# Altium schematic symbol library Microcontroller tinyAVR.SchLib: 370 symbols (part 9 of 11)
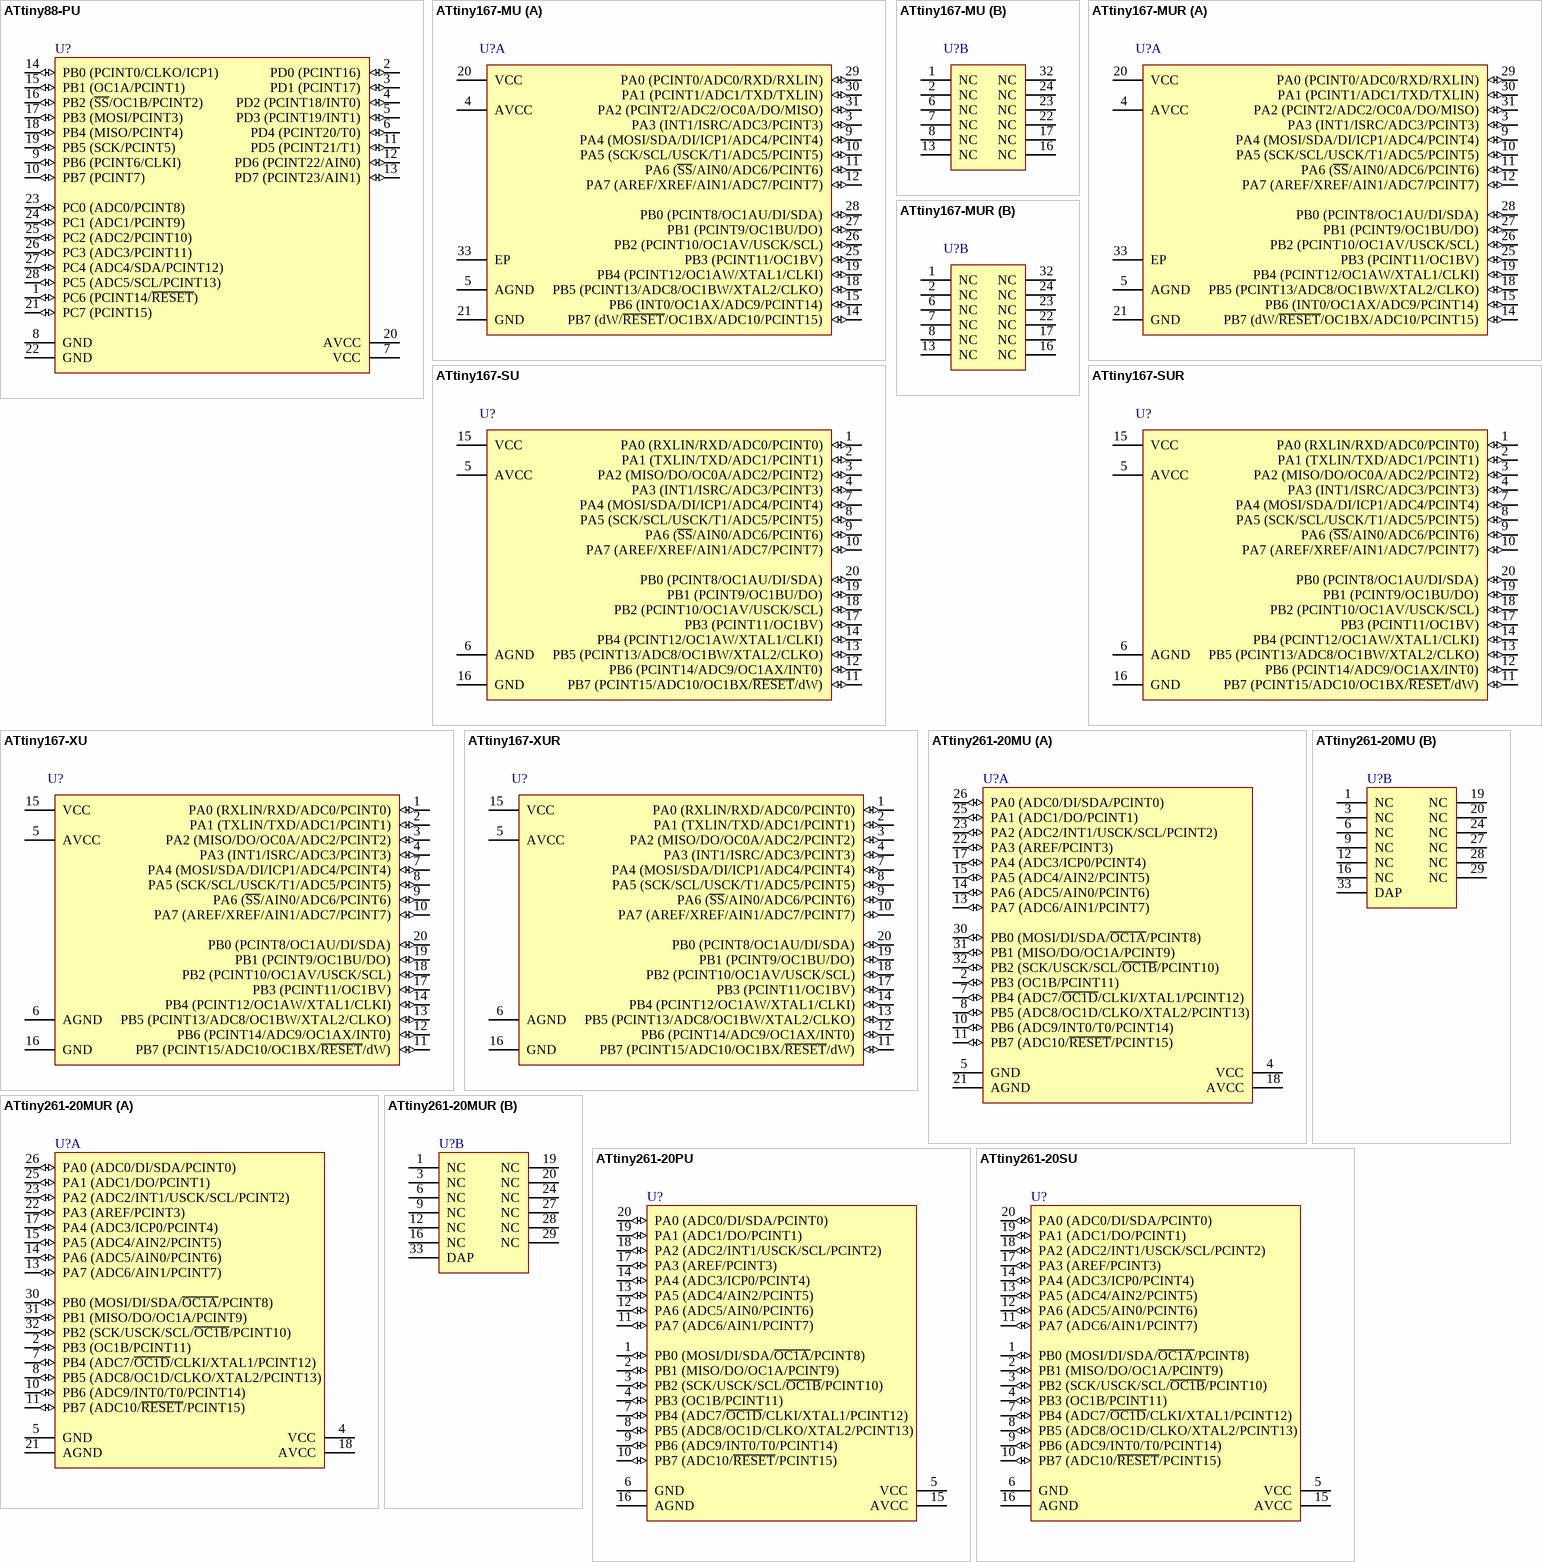
[diagram p34: symbols ATtiny88-PU to ATtiny261-20SU]

## ATtiny167-XUR
designator U?
8-bit AVR Microcontroller, LIN Controller, 1.8-5.5V, 20MHz, 16KB Flash, 512 Bytes EEPROM, 512 Bytes SRAM, 20-pin TSSOP, Industrial Grade (-40°C to 85°C), Reel; DatasheetVersion: revB, Sep-2010; PackageVersion: revC, Oct-2003; PackageReference: 20X; PackageDescription: 20-lead, 4.4 mm Body Width, Plastic Thin Shrink Small Outline Package (TSSOP); ComponentLink1Description: Manufacturer URL; ComponentLink1URL: http://www.atmel.com/; ComponentLink2Description: ATtiny87/167 Datasheet; ComponentLink2URL: http://www.atmel.com/dyn/resources/prod_documents/doc8265.pdf; ComponentLink3Description: ATtiny87/167 Summary; ComponentLink3URL: http://www.atmel.com/dyn/resources/prod_documents/8265S.pdf
footprint 20X_N (TSOP, 20-Leads, Body 6.5x4.4mm, Pitch 0.65mm, IPC Medium Density)
footprint 20X_L (TSOP, 20-Leads, Body 6.5x4.4mm, Pitch 0.65mm, IPC High Density)
footprint 20X_M (TSOP, 20-Leads, Body 6.5x4.4mm, Pitch 0.65mm, IPC Low Density)
pins: 1 PA0 (RXLIN/RXD/ADC0/PCINT0) (io), 2 PA1 (TXLIN/TXD/ADC1/PCINT1) (io), 3 PA2 (MISO/DO/OC0A/ADC2/PCINT2) (io), 4 PA3 (INT1/ISRC/ADC3/PCINT3) (io), 5 AVCC (power), 6 AGND (power), 7 PA4 (MOSI/SDA/DI/ICP1/ADC4/PCINT4) (io), 8 PA5 (SCK/SCL/USCK/T1/ADC5/PCINT5) (io), 9 PA6 (~{SS}/AIN0/ADC6/PCINT6) (io), 10 PA7 (AREF/XREF/AIN1/ADC7/PCINT7) (io), 11 PB7 (PCINT15/ADC10/OC1BX/~{RESET}/dW) (io), 12 PB6 (PCINT14/ADC9/OC1AX/INT0) (io), 13 PB5 (PCINT13/ADC8/OC1BW/XTAL2/CLKO) (io), 14 PB4 (PCINT12/OC1AW/XTAL1/CLKI) (io), 15 VCC (power), 16 GND (power), 17 PB3 (PCINT11/OC1BV) (io), 18 PB2 (PCINT10/OC1AV/USCK/SCL) (io), 19 PB1 (PCINT9/OC1BU/DO) (io), 20 PB0 (PCINT8/OC1AU/DI/SDA) (io)

## ATtiny261-20MU
designator U?
8-bit AVR Microcontroller, 2.7-5.5V, 20MHz, 2KB Flash, 128 Bytes EEPROM, 128 Bytes SRAM, 32-pin MLF, Industrial Grade (-40°C to 85°C); DatasheetVersion: revE, Aug-2010; PackageVersion: revE, May-2006; PackageReference: 32M1-A; PackageDescription: 32-Pin Micro Lead Frame Package (MLF),  5 x 5 x 1.0 mm Body, Pitch 0.50 mm, 3.10mm Exposed Pad; Code_JEDEC: MO-220-VHHD-2; ComponentLink1Description: Manufacturer URL; ComponentLink1URL: http://www.atmel.com/; ComponentLink2Description: ATtiny261/461/861 Datasheet; ComponentLink2URL: http://www.atmel.com/dyn/resources/prod_documents/doc2588.pdf; ComponentLink3Description: ATtiny261/461/861 Summary; ComponentLink3URL: http://www.atmel.com/dyn/resources/prod_documents/2588S.pdf
footprint 32M1-A_N (QFN, 32-Leads, Body 5x5mm, Pitch 0.5mm, Thermal Pad 3.3x3.3mm, IPC Medium Density)
footprint 32M1-A_L (QFN, 32-Leads, Body 5x5mm, Pitch 0.5mm, Thermal Pad 3.3x3.3mm, IPC High Density)
footprint 32M1-A_M (QFN, 32-Leads, Body 5x5mm, Pitch 0.5mm, Thermal Pad 3.3x3.3mm, IPC Low Density)
part A pins: 2 PB3 (OC1B/PCINT11) (io), 4 VCC (power), 5 GND (power), 7 PB4 (ADC7/~{OC1D}/CLKI/XTAL1/PCINT12) (io), 8 PB5 (ADC8/OC1D/CLKO/XTAL2/PCINT13) (io), 10 PB6 (ADC9/INT0/T0/PCINT14) (io), 11 PB7 (ADC10/~{RESET}/PCINT15) (io), 13 PA7 (ADC6/AIN1/PCINT7) (io), 14 PA6 (ADC5/AIN0/PCINT6) (io), 15 PA5 (ADC4/AIN2/PCINT5) (io), 17 PA4 (ADC3/ICP0/PCINT4) (io), 18 AVCC (power), 21 AGND (power), 22 PA3 (AREF/PCINT3) (io), 23 PA2 (ADC2/INT1/USCK/SCL/PCINT2) (io), 25 PA1 (ADC1/DO/PCINT1) (io), 26 PA0 (ADC0/DI/SDA/PCINT0) (io), 30 PB0 (MOSI/DI/SDA/~{OC1A}/PCINT8) (io), 31 PB1 (MISO/DO/OC1A/PCINT9) (io), 32 PB2 (SCK/USCK/SCL/~{OC1B}/PCINT10) (io)
part B pins: 1 NC, 3 NC, 6 NC, 9 NC, 12 NC, 16 NC, 19 NC, 20 NC, 24 NC, 27 NC, 28 NC, 29 NC, 33 DAP (power)

## ATtiny261-20MUR
designator U?
8-bit AVR Microcontroller, 2.7-5.5V, 20MHz, 2KB Flash, 128 Bytes EEPROM, 128 Bytes SRAM, 32-pin MLF, Industrial Grade (-40°C to 85°C), Reel; DatasheetVersion: revE, Aug-2010; PackageVersion: revE, May-2006; PackageReference: 32M1-A; PackageDescription: 32-Pin Micro Lead Frame Package (MLF),  5 x 5 x 1.0 mm Body, Pitch 0.50 mm, 3.10mm Exposed Pad; Code_JEDEC: MO-220-VHHD-2; ComponentLink1Description: Manufacturer URL; ComponentLink1URL: http://www.atmel.com/; ComponentLink2Description: ATtiny261/461/861 Datasheet; ComponentLink2URL: http://www.atmel.com/dyn/resources/prod_documents/doc2588.pdf; ComponentLink3Description: ATtiny261/461/861 Summary; ComponentLink3URL: http://www.atmel.com/dyn/resources/prod_documents/2588S.pdf
footprint 32M1-A_N (QFN, 32-Leads, Body 5x5mm, Pitch 0.5mm, Thermal Pad 3.3x3.3mm, IPC Medium Density)
footprint 32M1-A_L (QFN, 32-Leads, Body 5x5mm, Pitch 0.5mm, Thermal Pad 3.3x3.3mm, IPC High Density)
footprint 32M1-A_M (QFN, 32-Leads, Body 5x5mm, Pitch 0.5mm, Thermal Pad 3.3x3.3mm, IPC Low Density)
part A pins: 2 PB3 (OC1B/PCINT11) (io), 4 VCC (power), 5 GND (power), 7 PB4 (ADC7/~{OC1D}/CLKI/XTAL1/PCINT12) (io), 8 PB5 (ADC8/OC1D/CLKO/XTAL2/PCINT13) (io), 10 PB6 (ADC9/INT0/T0/PCINT14) (io), 11 PB7 (ADC10/~{RESET}/PCINT15) (io), 13 PA7 (ADC6/AIN1/PCINT7) (io), 14 PA6 (ADC5/AIN0/PCINT6) (io), 15 PA5 (ADC4/AIN2/PCINT5) (io), 17 PA4 (ADC3/ICP0/PCINT4) (io), 18 AVCC (power), 21 AGND (power), 22 PA3 (AREF/PCINT3) (io), 23 PA2 (ADC2/INT1/USCK/SCL/PCINT2) (io), 25 PA1 (ADC1/DO/PCINT1) (io), 26 PA0 (ADC0/DI/SDA/PCINT0) (io), 30 PB0 (MOSI/DI/SDA/~{OC1A}/PCINT8) (io), 31 PB1 (MISO/DO/OC1A/PCINT9) (io), 32 PB2 (SCK/USCK/SCL/~{OC1B}/PCINT10) (io)
part B pins: 1 NC, 3 NC, 6 NC, 9 NC, 12 NC, 16 NC, 19 NC, 20 NC, 24 NC, 27 NC, 28 NC, 29 NC, 33 DAP (power)

## ATtiny261-20PU
designator U?
8-bit AVR Microcontroller, 2.7-5.5V, 20MHz, 2KB Flash, 128 Bytes EEPROM, 128 Bytes SRAM, 20-pin PDIP, Industrial Grade (-40°C to 85°C); DatasheetVersion: revE, Aug-2010; PackageVersion: revD, Oct-2010; PackageReference: 20P3; PackageDescription: 20-lead (0.300"/7.62mm Wide) Plastic Dual Inline Package (PDIP); Code_JEDEC: MS-001-AD; ComponentLink1Description: Manufacturer URL; ComponentLink1URL: http://www.atmel.com/; ComponentLink2Description: ATtiny261/461/861 Datasheet; ComponentLink2URL: http://www.atmel.com/dyn/resources/prod_documents/doc2588.pdf; ComponentLink3Description: ATtiny261/461/861 Summary; ComponentLink3URL: http://www.atmel.com/dyn/resources/prod_documents/2588S.pdf
footprint 20P3 (DIP, 20-Leads, Row Spacing 7.62mm, Pitch 2.54mm, Body 25.9x6.61mm)
pins: 1 PB0 (MOSI/DI/SDA/~{OC1A}/PCINT8) (io), 2 PB1 (MISO/DO/OC1A/PCINT9) (io), 3 PB2 (SCK/USCK/SCL/~{OC1B}/PCINT10) (io), 4 PB3 (OC1B/PCINT11) (io), 5 VCC (power), 6 GND (power), 7 PB4 (ADC7/~{OC1D}/CLKI/XTAL1/PCINT12) (io), 8 PB5 (ADC8/OC1D/CLKO/XTAL2/PCINT13) (io), 9 PB6 (ADC9/INT0/T0/PCINT14) (io), 10 PB7 (ADC10/~{RESET}/PCINT15) (io), 11 PA7 (ADC6/AIN1/PCINT7) (io), 12 PA6 (ADC5/AIN0/PCINT6) (io), 13 PA5 (ADC4/AIN2/PCINT5) (io), 14 PA4 (ADC3/ICP0/PCINT4) (io), 15 AVCC (power), 16 AGND (power), 17 PA3 (AREF/PCINT3) (io), 18 PA2 (ADC2/INT1/USCK/SCL/PCINT2) (io), 19 PA1 (ADC1/DO/PCINT1) (io), 20 PA0 (ADC0/DI/SDA/PCINT0) (io)

## ATtiny261-20SU
designator U?
8-bit AVR Microcontroller, 2.7-5.5V, 20MHz, 2KB Flash, 128 Bytes EEPROM, 128 Bytes SRAM, 20-pin SOIC, Industrial Grade (-40°C to 85°C); DatasheetVersion: revE, Aug-2010; PackageVersion: revB, Nov-2006; PackageReference: 20S2; PackageDescription: 20-lead, 0.300" Wide Body, Plastic Gull Wing Small Outline Package (SOIC); Code_JEDEC: MS-013-AC; Code_IPC: SOIC127P1030-20; ComponentLink1Description: Manufacturer URL; ComponentLink1URL: http://www.atmel.com/; ComponentLink2Description: ATtiny261/461/861 Datasheet; ComponentLink2URL: http://www.atmel.com/dyn/resources/prod_documents/doc2588.pdf; ComponentLink3Description: ATtiny261/461/861 Summary; ComponentLink3URL: http://www.atmel.com/dyn/resources/prod_documents/2588S.pdf
footprint 20S2_N (SOIC, 20-Leads, Body 12.8x7.5mm, Pitch 1.27mm, IPC Medium Density)
footprint 20S2_L (SOIC, 20-Leads, Body 12.8x7.5mm, Pitch 1.27mm, IPC High Density)
footprint 20S2_M (SOIC, 20-Leads, Body 12.8x7.5mm, Pitch 1.27mm, IPC Low Density)
pins: 1 PB0 (MOSI/DI/SDA/~{OC1A}/PCINT8) (io), 2 PB1 (MISO/DO/OC1A/PCINT9) (io), 3 PB2 (SCK/USCK/SCL/~{OC1B}/PCINT10) (io), 4 PB3 (OC1B/PCINT11) (io), 5 VCC (power), 6 GND (power), 7 PB4 (ADC7/~{OC1D}/CLKI/XTAL1/PCINT12) (io), 8 PB5 (ADC8/OC1D/CLKO/XTAL2/PCINT13) (io), 9 PB6 (ADC9/INT0/T0/PCINT14) (io), 10 PB7 (ADC10/~{RESET}/PCINT15) (io), 11 PA7 (ADC6/AIN1/PCINT7) (io), 12 PA6 (ADC5/AIN0/PCINT6) (io), 13 PA5 (ADC4/AIN2/PCINT5) (io), 14 PA4 (ADC3/ICP0/PCINT4) (io), 15 AVCC (power), 16 AGND (power), 17 PA3 (AREF/PCINT3) (io), 18 PA2 (ADC2/INT1/USCK/SCL/PCINT2) (io), 19 PA1 (ADC1/DO/PCINT1) (io), 20 PA0 (ADC0/DI/SDA/PCINT0) (io)

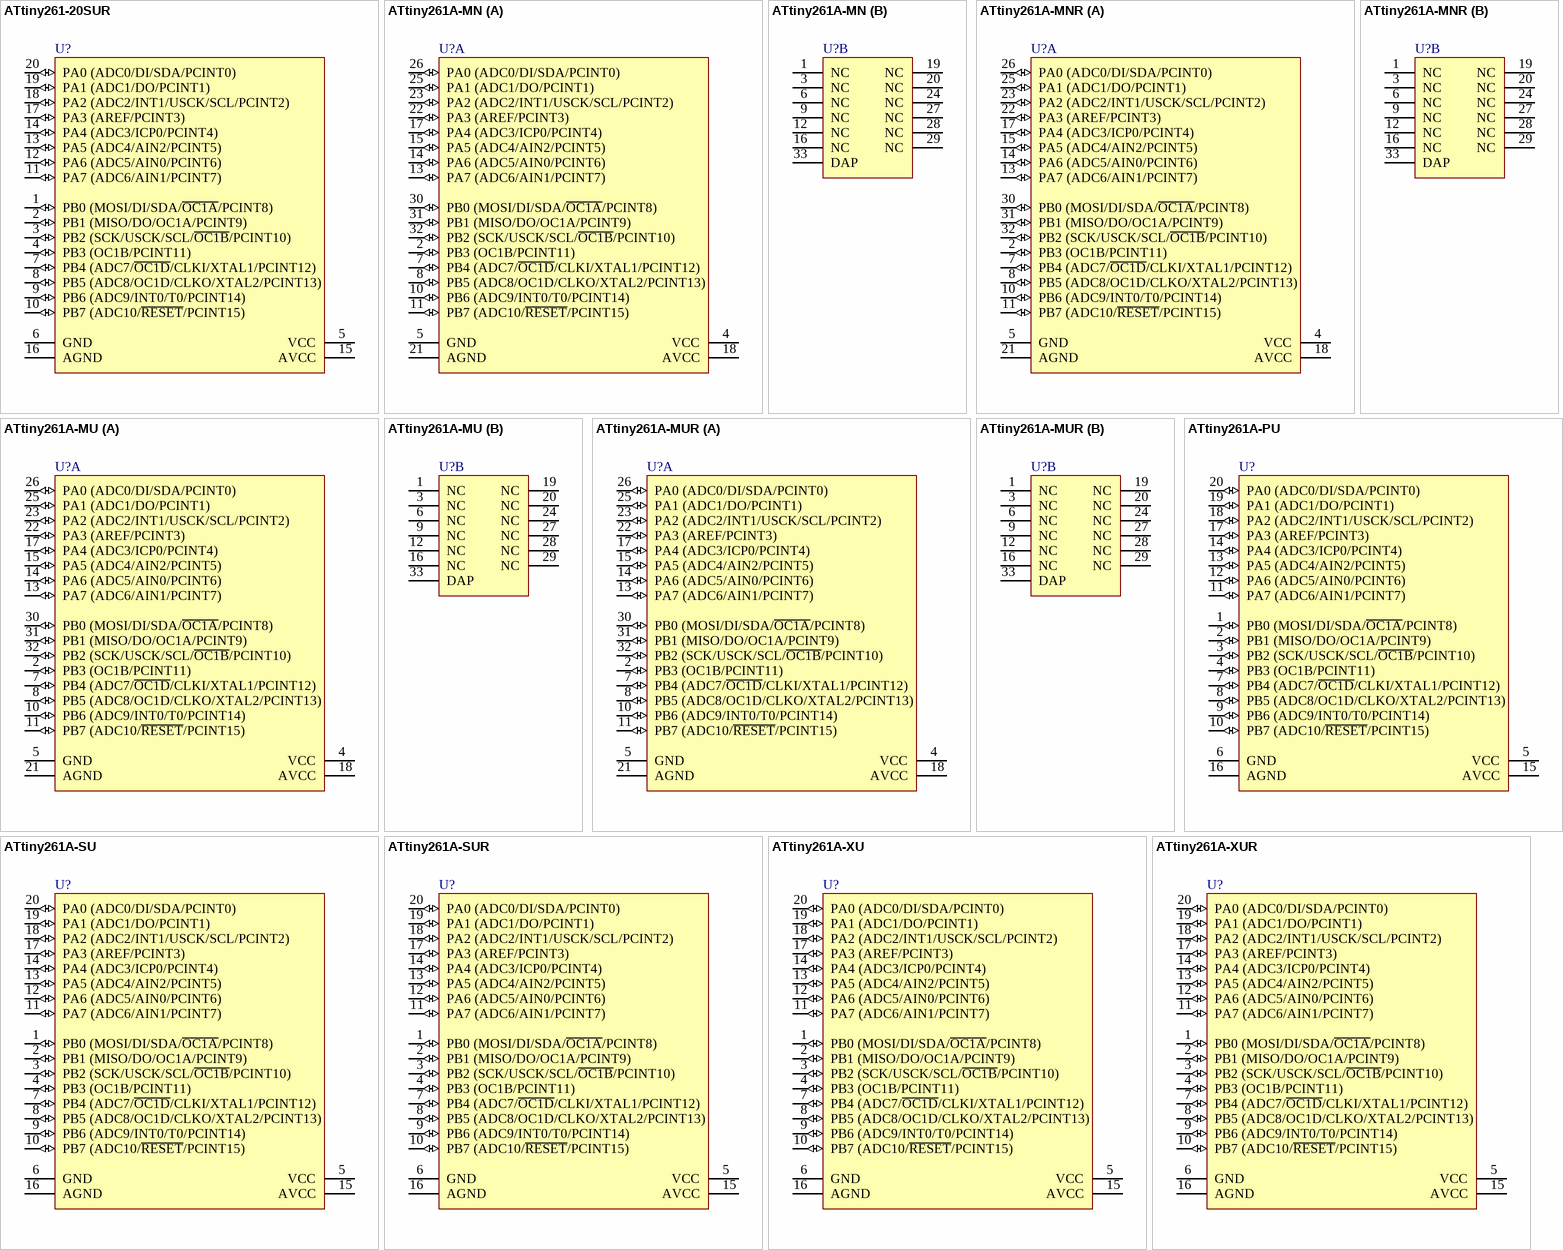
[diagram p20: symbols ATtiny261-20SUR to ATtiny261A-XUR]

## ATtiny261-20SUR
designator U?
8-bit AVR Microcontroller, 2.7-5.5V, 20MHz, 2KB Flash, 128 Bytes EEPROM, 128 Bytes SRAM, 20-pin SOIC, Industrial Grade (-40°C to 85°C), Reel; DatasheetVersion: revE, Aug-2010; PackageVersion: revB, Nov-2006; PackageReference: 20S2; PackageDescription: 20-lead, 0.300" Wide Body, Plastic Gull Wing Small Outline Package (SOIC); Code_JEDEC: MS-013-AC; Code_IPC: SOIC127P1030-20; ComponentLink1Description: Manufacturer URL; ComponentLink1URL: http://www.atmel.com/; ComponentLink2Description: ATtiny261/461/861 Datasheet; ComponentLink2URL: http://www.atmel.com/dyn/resources/prod_documents/doc2588.pdf; ComponentLink3Description: ATtiny261/461/861 Summary; ComponentLink3URL: http://www.atmel.com/dyn/resources/prod_documents/2588S.pdf
footprint 20S2_N (SOIC, 20-Leads, Body 12.8x7.5mm, Pitch 1.27mm, IPC Medium Density)
footprint 20S2_L (SOIC, 20-Leads, Body 12.8x7.5mm, Pitch 1.27mm, IPC High Density)
footprint 20S2_M (SOIC, 20-Leads, Body 12.8x7.5mm, Pitch 1.27mm, IPC Low Density)
pins: 1 PB0 (MOSI/DI/SDA/~{OC1A}/PCINT8) (io), 2 PB1 (MISO/DO/OC1A/PCINT9) (io), 3 PB2 (SCK/USCK/SCL/~{OC1B}/PCINT10) (io), 4 PB3 (OC1B/PCINT11) (io), 5 VCC (power), 6 GND (power), 7 PB4 (ADC7/~{OC1D}/CLKI/XTAL1/PCINT12) (io), 8 PB5 (ADC8/OC1D/CLKO/XTAL2/PCINT13) (io), 9 PB6 (ADC9/INT0/T0/PCINT14) (io), 10 PB7 (ADC10/~{RESET}/PCINT15) (io), 11 PA7 (ADC6/AIN1/PCINT7) (io), 12 PA6 (ADC5/AIN0/PCINT6) (io), 13 PA5 (ADC4/AIN2/PCINT5) (io), 14 PA4 (ADC3/ICP0/PCINT4) (io), 15 AVCC (power), 16 AGND (power), 17 PA3 (AREF/PCINT3) (io), 18 PA2 (ADC2/INT1/USCK/SCL/PCINT2) (io), 19 PA1 (ADC1/DO/PCINT1) (io), 20 PA0 (ADC0/DI/SDA/PCINT0) (io)

## ATtiny261A-MN
designator U?
8-bit AVR Microcontroller, 1.8-5.5V, 20MHz, 2KB Flash, 128 Bytes EEPROM, 128 Bytes SRAM, 32-pin MLF, Industrial Grade (-40°C to 105°C), Pb-Free; DatasheetVersion: revC, May-2011; PackageVersion: revE, May-2006; PackageReference: 32M1-A; PackageDescription: 32-Pin Micro Lead Frame Package (MLF),  5 x 5 x 1.0 mm Body, Pitch 0.50 mm, 3.10mm Exposed Pad; Code_JEDEC: MO-220-VHHD-2; ComponentLink1Description: Manufacturer URL; ComponentLink1URL: http://www.atmel.com/; ComponentLink2Description: ATtiny261A/461A/861A Datasheet; ComponentLink2URL: http://www.atmel.com/dyn/resources/prod_documents/doc8197.pdf; ComponentLink3Description: ATtiny261A/461A/861A Summary; ComponentLink3URL: http://www.atmel.com/dyn/resources/prod_documents/8197S.pdf
footprint 32M1-A_N (QFN, 32-Leads, Body 5x5mm, Pitch 0.5mm, Thermal Pad 3.3x3.3mm, IPC Medium Density)
footprint 32M1-A_L (QFN, 32-Leads, Body 5x5mm, Pitch 0.5mm, Thermal Pad 3.3x3.3mm, IPC High Density)
footprint 32M1-A_M (QFN, 32-Leads, Body 5x5mm, Pitch 0.5mm, Thermal Pad 3.3x3.3mm, IPC Low Density)
part A pins: 2 PB3 (OC1B/PCINT11) (io), 4 VCC (power), 5 GND (power), 7 PB4 (ADC7/~{OC1D}/CLKI/XTAL1/PCINT12) (io), 8 PB5 (ADC8/OC1D/CLKO/XTAL2/PCINT13) (io), 10 PB6 (ADC9/INT0/T0/PCINT14) (io), 11 PB7 (ADC10/~{RESET}/PCINT15) (io), 13 PA7 (ADC6/AIN1/PCINT7) (io), 14 PA6 (ADC5/AIN0/PCINT6) (io), 15 PA5 (ADC4/AIN2/PCINT5) (io), 17 PA4 (ADC3/ICP0/PCINT4) (io), 18 AVCC (power), 21 AGND (power), 22 PA3 (AREF/PCINT3) (io), 23 PA2 (ADC2/INT1/USCK/SCL/PCINT2) (io), 25 PA1 (ADC1/DO/PCINT1) (io), 26 PA0 (ADC0/DI/SDA/PCINT0) (io), 30 PB0 (MOSI/DI/SDA/~{OC1A}/PCINT8) (io), 31 PB1 (MISO/DO/OC1A/PCINT9) (io), 32 PB2 (SCK/USCK/SCL/~{OC1B}/PCINT10) (io)
part B pins: 1 NC, 3 NC, 6 NC, 9 NC, 12 NC, 16 NC, 19 NC, 20 NC, 24 NC, 27 NC, 28 NC, 29 NC, 33 DAP (power)

## ATtiny261A-MNR
designator U?
8-bit AVR Microcontroller, 1.8-5.5V, 20MHz, 2KB Flash, 128 Bytes EEPROM, 128 Bytes SRAM, 32-pin MLF, Industrial Grade (-40°C to 105°C), Pb-Free, Reel; DatasheetVersion: revC, May-2011; PackageVersion: revE, May-2006; PackageReference: 32M1-A; PackageDescription: 32-Pin Micro Lead Frame Package (MLF),  5 x 5 x 1.0 mm Body, Pitch 0.50 mm, 3.10mm Exposed Pad; Code_JEDEC: MO-220-VHHD-2; ComponentLink1Description: Manufacturer URL; ComponentLink1URL: http://www.atmel.com/; ComponentLink2Description: ATtiny261A/461A/861A Datasheet; ComponentLink2URL: http://www.atmel.com/dyn/resources/prod_documents/doc8197.pdf; ComponentLink3Description: ATtiny261A/461A/861A Summary; ComponentLink3URL: http://www.atmel.com/dyn/resources/prod_documents/8197S.pdf
footprint 32M1-A_N (QFN, 32-Leads, Body 5x5mm, Pitch 0.5mm, Thermal Pad 3.3x3.3mm, IPC Medium Density)
footprint 32M1-A_L (QFN, 32-Leads, Body 5x5mm, Pitch 0.5mm, Thermal Pad 3.3x3.3mm, IPC High Density)
footprint 32M1-A_M (QFN, 32-Leads, Body 5x5mm, Pitch 0.5mm, Thermal Pad 3.3x3.3mm, IPC Low Density)
part A pins: 2 PB3 (OC1B/PCINT11) (io), 4 VCC (power), 5 GND (power), 7 PB4 (ADC7/~{OC1D}/CLKI/XTAL1/PCINT12) (io), 8 PB5 (ADC8/OC1D/CLKO/XTAL2/PCINT13) (io), 10 PB6 (ADC9/INT0/T0/PCINT14) (io), 11 PB7 (ADC10/~{RESET}/PCINT15) (io), 13 PA7 (ADC6/AIN1/PCINT7) (io), 14 PA6 (ADC5/AIN0/PCINT6) (io), 15 PA5 (ADC4/AIN2/PCINT5) (io), 17 PA4 (ADC3/ICP0/PCINT4) (io), 18 AVCC (power), 21 AGND (power), 22 PA3 (AREF/PCINT3) (io), 23 PA2 (ADC2/INT1/USCK/SCL/PCINT2) (io), 25 PA1 (ADC1/DO/PCINT1) (io), 26 PA0 (ADC0/DI/SDA/PCINT0) (io), 30 PB0 (MOSI/DI/SDA/~{OC1A}/PCINT8) (io), 31 PB1 (MISO/DO/OC1A/PCINT9) (io), 32 PB2 (SCK/USCK/SCL/~{OC1B}/PCINT10) (io)
part B pins: 1 NC, 3 NC, 6 NC, 9 NC, 12 NC, 16 NC, 19 NC, 20 NC, 24 NC, 27 NC, 28 NC, 29 NC, 33 DAP (power)

## ATtiny261A-MU
designator U?
8-bit AVR Microcontroller, 1.8-5.5V, 20MHz, 2KB Flash, 128 Bytes EEPROM, 128 Bytes SRAM, 32-pin MLF, Industrial Grade (-40°C to 85°C), Pb-Free; DatasheetVersion: revC, May-2011; PackageVersion: revE, May-2006; PackageReference: 32M1-A; PackageDescription: 32-Pin Micro Lead Frame Package (MLF),  5 x 5 x 1.0 mm Body, Pitch 0.50 mm, 3.10mm Exposed Pad; Code_JEDEC: MO-220-VHHD-2; ComponentLink1Description: Manufacturer URL; ComponentLink1URL: http://www.atmel.com/; ComponentLink2Description: ATtiny261A/461A/861A Datasheet; ComponentLink2URL: http://www.atmel.com/dyn/resources/prod_documents/doc8197.pdf; ComponentLink3Description: ATtiny261A/461A/861A Summary; ComponentLink3URL: http://www.atmel.com/dyn/resources/prod_documents/8197S.pdf
footprint 32M1-A_N (QFN, 32-Leads, Body 5x5mm, Pitch 0.5mm, Thermal Pad 3.3x3.3mm, IPC Medium Density)
footprint 32M1-A_L (QFN, 32-Leads, Body 5x5mm, Pitch 0.5mm, Thermal Pad 3.3x3.3mm, IPC High Density)
footprint 32M1-A_M (QFN, 32-Leads, Body 5x5mm, Pitch 0.5mm, Thermal Pad 3.3x3.3mm, IPC Low Density)
part A pins: 2 PB3 (OC1B/PCINT11) (io), 4 VCC (power), 5 GND (power), 7 PB4 (ADC7/~{OC1D}/CLKI/XTAL1/PCINT12) (io), 8 PB5 (ADC8/OC1D/CLKO/XTAL2/PCINT13) (io), 10 PB6 (ADC9/INT0/T0/PCINT14) (io), 11 PB7 (ADC10/~{RESET}/PCINT15) (io), 13 PA7 (ADC6/AIN1/PCINT7) (io), 14 PA6 (ADC5/AIN0/PCINT6) (io), 15 PA5 (ADC4/AIN2/PCINT5) (io), 17 PA4 (ADC3/ICP0/PCINT4) (io), 18 AVCC (power), 21 AGND (power), 22 PA3 (AREF/PCINT3) (io), 23 PA2 (ADC2/INT1/USCK/SCL/PCINT2) (io), 25 PA1 (ADC1/DO/PCINT1) (io), 26 PA0 (ADC0/DI/SDA/PCINT0) (io), 30 PB0 (MOSI/DI/SDA/~{OC1A}/PCINT8) (io), 31 PB1 (MISO/DO/OC1A/PCINT9) (io), 32 PB2 (SCK/USCK/SCL/~{OC1B}/PCINT10) (io)
part B pins: 1 NC, 3 NC, 6 NC, 9 NC, 12 NC, 16 NC, 19 NC, 20 NC, 24 NC, 27 NC, 28 NC, 29 NC, 33 DAP (power)

## ATtiny261A-MUR
designator U?
8-bit AVR Microcontroller, 1.8-5.5V, 20MHz, 2KB Flash, 128 Bytes EEPROM, 128 Bytes SRAM, 32-pin MLF, Industrial Grade (-40°C to 85°C), Pb-Free, Reel; DatasheetVersion: revC, May-2011; PackageVersion: revE, May-2006; PackageReference: 32M1-A; PackageDescription: 32-Pin Micro Lead Frame Package (MLF),  5 x 5 x 1.0 mm Body, Pitch 0.50 mm, 3.10mm Exposed Pad; Code_JEDEC: MO-220-VHHD-2; ComponentLink1Description: Manufacturer URL; ComponentLink1URL: http://www.atmel.com/; ComponentLink2Description: ATtiny261A/461A/861A Datasheet; ComponentLink2URL: http://www.atmel.com/dyn/resources/prod_documents/doc8197.pdf; ComponentLink3Description: ATtiny261A/461A/861A Summary; ComponentLink3URL: http://www.atmel.com/dyn/resources/prod_documents/8197S.pdf
footprint 32M1-A_N (QFN, 32-Leads, Body 5x5mm, Pitch 0.5mm, Thermal Pad 3.3x3.3mm, IPC Medium Density)
footprint 32M1-A_L (QFN, 32-Leads, Body 5x5mm, Pitch 0.5mm, Thermal Pad 3.3x3.3mm, IPC High Density)
footprint 32M1-A_M (QFN, 32-Leads, Body 5x5mm, Pitch 0.5mm, Thermal Pad 3.3x3.3mm, IPC Low Density)
part A pins: 2 PB3 (OC1B/PCINT11) (io), 4 VCC (power), 5 GND (power), 7 PB4 (ADC7/~{OC1D}/CLKI/XTAL1/PCINT12) (io), 8 PB5 (ADC8/OC1D/CLKO/XTAL2/PCINT13) (io), 10 PB6 (ADC9/INT0/T0/PCINT14) (io), 11 PB7 (ADC10/~{RESET}/PCINT15) (io), 13 PA7 (ADC6/AIN1/PCINT7) (io), 14 PA6 (ADC5/AIN0/PCINT6) (io), 15 PA5 (ADC4/AIN2/PCINT5) (io), 17 PA4 (ADC3/ICP0/PCINT4) (io), 18 AVCC (power), 21 AGND (power), 22 PA3 (AREF/PCINT3) (io), 23 PA2 (ADC2/INT1/USCK/SCL/PCINT2) (io), 25 PA1 (ADC1/DO/PCINT1) (io), 26 PA0 (ADC0/DI/SDA/PCINT0) (io), 30 PB0 (MOSI/DI/SDA/~{OC1A}/PCINT8) (io), 31 PB1 (MISO/DO/OC1A/PCINT9) (io), 32 PB2 (SCK/USCK/SCL/~{OC1B}/PCINT10) (io)
part B pins: 1 NC, 3 NC, 6 NC, 9 NC, 12 NC, 16 NC, 19 NC, 20 NC, 24 NC, 27 NC, 28 NC, 29 NC, 33 DAP (power)

## ATtiny261A-PU
designator U?
8-bit AVR Microcontroller, 1.8-5.5V, 20MHz, 2KB Flash, 128 Bytes EEPROM, 128 Bytes SRAM, 20-pin PDIP, Industrial Grade (-40°C to 85°C), Pb-Free; DatasheetVersion: revC, May-2011; PackageVersion: revD, Oct-2010; PackageReference: 20P3; PackageDescription: 20-lead (0.300"/7.62mm Wide) Plastic Dual Inline Package (PDIP); Code_JEDEC: MS-001-AD; ComponentLink1Description: Manufacturer URL; ComponentLink1URL: http://www.atmel.com/; ComponentLink2Description: ATtiny261A/461A/861A Datasheet; ComponentLink2URL: http://www.atmel.com/dyn/resources/prod_documents/doc8197.pdf; ComponentLink3Description: ATtiny261A/461A/861A Summary; ComponentLink3URL: http://www.atmel.com/dyn/resources/prod_documents/8197S.pdf
footprint 20P3 (DIP, 20-Leads, Row Spacing 7.62mm, Pitch 2.54mm, Body 25.9x6.61mm)
pins: 1 PB0 (MOSI/DI/SDA/~{OC1A}/PCINT8) (io), 2 PB1 (MISO/DO/OC1A/PCINT9) (io), 3 PB2 (SCK/USCK/SCL/~{OC1B}/PCINT10) (io), 4 PB3 (OC1B/PCINT11) (io), 5 VCC (power), 6 GND (power), 7 PB4 (ADC7/~{OC1D}/CLKI/XTAL1/PCINT12) (io), 8 PB5 (ADC8/OC1D/CLKO/XTAL2/PCINT13) (io), 9 PB6 (ADC9/INT0/T0/PCINT14) (io), 10 PB7 (ADC10/~{RESET}/PCINT15) (io), 11 PA7 (ADC6/AIN1/PCINT7) (io), 12 PA6 (ADC5/AIN0/PCINT6) (io), 13 PA5 (ADC4/AIN2/PCINT5) (io), 14 PA4 (ADC3/ICP0/PCINT4) (io), 15 AVCC (power), 16 AGND (power), 17 PA3 (AREF/PCINT3) (io), 18 PA2 (ADC2/INT1/USCK/SCL/PCINT2) (io), 19 PA1 (ADC1/DO/PCINT1) (io), 20 PA0 (ADC0/DI/SDA/PCINT0) (io)

## ATtiny261A-SU
designator U?
8-bit AVR Microcontroller, 1.8-5.5V, 20MHz, 2KB Flash, 128 Bytes EEPROM, 128 Bytes SRAM, 20-pin SOIC, Industrial Grade (-40°C to 85°C), Pb-Free; DatasheetVersion: revC, May-2011; PackageVersion: revB, Nov-2006; PackageReference: 20S2; PackageDescription: 20-lead, 0.300" Wide Body, Plastic Gull Wing Small Outline Package (SOIC); Code_JEDEC: MS-013-AC; Code_IPC: SOIC127P1030-20; ComponentLink1Description: Manufacturer URL; ComponentLink1URL: http://www.atmel.com/; ComponentLink2Description: ATtiny261A/461A/861A Datasheet; ComponentLink2URL: http://www.atmel.com/dyn/resources/prod_documents/doc8197.pdf; ComponentLink3Description: ATtiny261A/461A/861A Summary; ComponentLink3URL: http://www.atmel.com/dyn/resources/prod_documents/8197S.pdf
footprint 20S2_N (SOIC, 20-Leads, Body 12.8x7.5mm, Pitch 1.27mm, IPC Medium Density)
footprint 20S2_L (SOIC, 20-Leads, Body 12.8x7.5mm, Pitch 1.27mm, IPC High Density)
footprint 20S2_M (SOIC, 20-Leads, Body 12.8x7.5mm, Pitch 1.27mm, IPC Low Density)
pins: 1 PB0 (MOSI/DI/SDA/~{OC1A}/PCINT8) (io), 2 PB1 (MISO/DO/OC1A/PCINT9) (io), 3 PB2 (SCK/USCK/SCL/~{OC1B}/PCINT10) (io), 4 PB3 (OC1B/PCINT11) (io), 5 VCC (power), 6 GND (power), 7 PB4 (ADC7/~{OC1D}/CLKI/XTAL1/PCINT12) (io), 8 PB5 (ADC8/OC1D/CLKO/XTAL2/PCINT13) (io), 9 PB6 (ADC9/INT0/T0/PCINT14) (io), 10 PB7 (ADC10/~{RESET}/PCINT15) (io), 11 PA7 (ADC6/AIN1/PCINT7) (io), 12 PA6 (ADC5/AIN0/PCINT6) (io), 13 PA5 (ADC4/AIN2/PCINT5) (io), 14 PA4 (ADC3/ICP0/PCINT4) (io), 15 AVCC (power), 16 AGND (power), 17 PA3 (AREF/PCINT3) (io), 18 PA2 (ADC2/INT1/USCK/SCL/PCINT2) (io), 19 PA1 (ADC1/DO/PCINT1) (io), 20 PA0 (ADC0/DI/SDA/PCINT0) (io)

## ATtiny261A-SUR
designator U?
8-bit AVR Microcontroller, 1.8-5.5V, 20MHz, 2KB Flash, 128 Bytes EEPROM, 128 Bytes SRAM, 20-pin SOIC, Industrial Grade (-40°C to 85°C), Pb-Free, Reel; DatasheetVersion: revC, May-2011; PackageVersion: revB, Nov-2006; PackageReference: 20S2; PackageDescription: 20-lead, 0.300" Wide Body, Plastic Gull Wing Small Outline Package (SOIC); Code_JEDEC: MS-013-AC; Code_IPC: SOIC127P1030-20; ComponentLink1Description: Manufacturer URL; ComponentLink1URL: http://www.atmel.com/; ComponentLink2Description: ATtiny261A/461A/861A Datasheet; ComponentLink2URL: http://www.atmel.com/dyn/resources/prod_documents/doc8197.pdf; ComponentLink3Description: ATtiny261A/461A/861A Summary; ComponentLink3URL: http://www.atmel.com/dyn/resources/prod_documents/8197S.pdf
footprint 20S2_N (SOIC, 20-Leads, Body 12.8x7.5mm, Pitch 1.27mm, IPC Medium Density)
footprint 20S2_L (SOIC, 20-Leads, Body 12.8x7.5mm, Pitch 1.27mm, IPC High Density)
footprint 20S2_M (SOIC, 20-Leads, Body 12.8x7.5mm, Pitch 1.27mm, IPC Low Density)
pins: 1 PB0 (MOSI/DI/SDA/~{OC1A}/PCINT8) (io), 2 PB1 (MISO/DO/OC1A/PCINT9) (io), 3 PB2 (SCK/USCK/SCL/~{OC1B}/PCINT10) (io), 4 PB3 (OC1B/PCINT11) (io), 5 VCC (power), 6 GND (power), 7 PB4 (ADC7/~{OC1D}/CLKI/XTAL1/PCINT12) (io), 8 PB5 (ADC8/OC1D/CLKO/XTAL2/PCINT13) (io), 9 PB6 (ADC9/INT0/T0/PCINT14) (io), 10 PB7 (ADC10/~{RESET}/PCINT15) (io), 11 PA7 (ADC6/AIN1/PCINT7) (io), 12 PA6 (ADC5/AIN0/PCINT6) (io), 13 PA5 (ADC4/AIN2/PCINT5) (io), 14 PA4 (ADC3/ICP0/PCINT4) (io), 15 AVCC (power), 16 AGND (power), 17 PA3 (AREF/PCINT3) (io), 18 PA2 (ADC2/INT1/USCK/SCL/PCINT2) (io), 19 PA1 (ADC1/DO/PCINT1) (io), 20 PA0 (ADC0/DI/SDA/PCINT0) (io)

## ATtiny261A-XU
designator U?
8-bit AVR Microcontroller, 1.8-5.5V, 20MHz, 2KB Flash, 128 Bytes EEPROM, 128 Bytes SRAM, 20-pin TSSOP, Industrial Grade (-40°C to 85°C), Pb-Free; DatasheetVersion: revC, May-2011; PackageVersion: revC, Oct-2003; PackageReference: 20X; PackageDescription: 20-lead, 4.4 mm Body Width, Plastic Thin Shrink Small Outline Package (TSSOP); ComponentLink1Description: Manufacturer URL; ComponentLink1URL: http://www.atmel.com/; ComponentLink2Description: ATtiny261A/461A/861A Datasheet; ComponentLink2URL: http://www.atmel.com/dyn/resources/prod_documents/doc8197.pdf; ComponentLink3Description: ATtiny261A/461A/861A Summary; ComponentLink3URL: http://www.atmel.com/dyn/resources/prod_documents/8197S.pdf
footprint 20X_N (TSOP, 20-Leads, Body 6.5x4.4mm, Pitch 0.65mm, IPC Medium Density)
footprint 20X_L (TSOP, 20-Leads, Body 6.5x4.4mm, Pitch 0.65mm, IPC High Density)
footprint 20X_M (TSOP, 20-Leads, Body 6.5x4.4mm, Pitch 0.65mm, IPC Low Density)
pins: 1 PB0 (MOSI/DI/SDA/~{OC1A}/PCINT8) (io), 2 PB1 (MISO/DO/OC1A/PCINT9) (io), 3 PB2 (SCK/USCK/SCL/~{OC1B}/PCINT10) (io), 4 PB3 (OC1B/PCINT11) (io), 5 VCC (power), 6 GND (power), 7 PB4 (ADC7/~{OC1D}/CLKI/XTAL1/PCINT12) (io), 8 PB5 (ADC8/OC1D/CLKO/XTAL2/PCINT13) (io), 9 PB6 (ADC9/INT0/T0/PCINT14) (io), 10 PB7 (ADC10/~{RESET}/PCINT15) (io), 11 PA7 (ADC6/AIN1/PCINT7) (io), 12 PA6 (ADC5/AIN0/PCINT6) (io), 13 PA5 (ADC4/AIN2/PCINT5) (io), 14 PA4 (ADC3/ICP0/PCINT4) (io), 15 AVCC (power), 16 AGND (power), 17 PA3 (AREF/PCINT3) (io), 18 PA2 (ADC2/INT1/USCK/SCL/PCINT2) (io), 19 PA1 (ADC1/DO/PCINT1) (io), 20 PA0 (ADC0/DI/SDA/PCINT0) (io)

## ATtiny261A-XUR
designator U?
8-bit AVR Microcontroller, 1.8-5.5V, 20MHz, 2KB Flash, 128 Bytes EEPROM, 128 Bytes SRAM, 20-pin TSSOP, Industrial Grade (-40°C to 85°C), Pb-Free, Reel; DatasheetVersion: revC, May-2011; PackageVersion: revC, Oct-2003; PackageReference: 20X; PackageDescription: 20-lead, 4.4 mm Body Width, Plastic Thin Shrink Small Outline Package (TSSOP); ComponentLink1Description: Manufacturer URL; ComponentLink1URL: http://www.atmel.com/; ComponentLink2Description: ATtiny261A/461A/861A Datasheet; ComponentLink2URL: http://www.atmel.com/dyn/resources/prod_documents/doc8197.pdf; ComponentLink3Description: ATtiny261A/461A/861A Summary; ComponentLink3URL: http://www.atmel.com/dyn/resources/prod_documents/8197S.pdf
footprint 20X_N (TSOP, 20-Leads, Body 6.5x4.4mm, Pitch 0.65mm, IPC Medium Density)
footprint 20X_L (TSOP, 20-Leads, Body 6.5x4.4mm, Pitch 0.65mm, IPC High Density)
footprint 20X_M (TSOP, 20-Leads, Body 6.5x4.4mm, Pitch 0.65mm, IPC Low Density)
pins: 1 PB0 (MOSI/DI/SDA/~{OC1A}/PCINT8) (io), 2 PB1 (MISO/DO/OC1A/PCINT9) (io), 3 PB2 (SCK/USCK/SCL/~{OC1B}/PCINT10) (io), 4 PB3 (OC1B/PCINT11) (io), 5 VCC (power), 6 GND (power), 7 PB4 (ADC7/~{OC1D}/CLKI/XTAL1/PCINT12) (io), 8 PB5 (ADC8/OC1D/CLKO/XTAL2/PCINT13) (io), 9 PB6 (ADC9/INT0/T0/PCINT14) (io), 10 PB7 (ADC10/~{RESET}/PCINT15) (io), 11 PA7 (ADC6/AIN1/PCINT7) (io), 12 PA6 (ADC5/AIN0/PCINT6) (io), 13 PA5 (ADC4/AIN2/PCINT5) (io), 14 PA4 (ADC3/ICP0/PCINT4) (io), 15 AVCC (power), 16 AGND (power), 17 PA3 (AREF/PCINT3) (io), 18 PA2 (ADC2/INT1/USCK/SCL/PCINT2) (io), 19 PA1 (ADC1/DO/PCINT1) (io), 20 PA0 (ADC0/DI/SDA/PCINT0) (io)

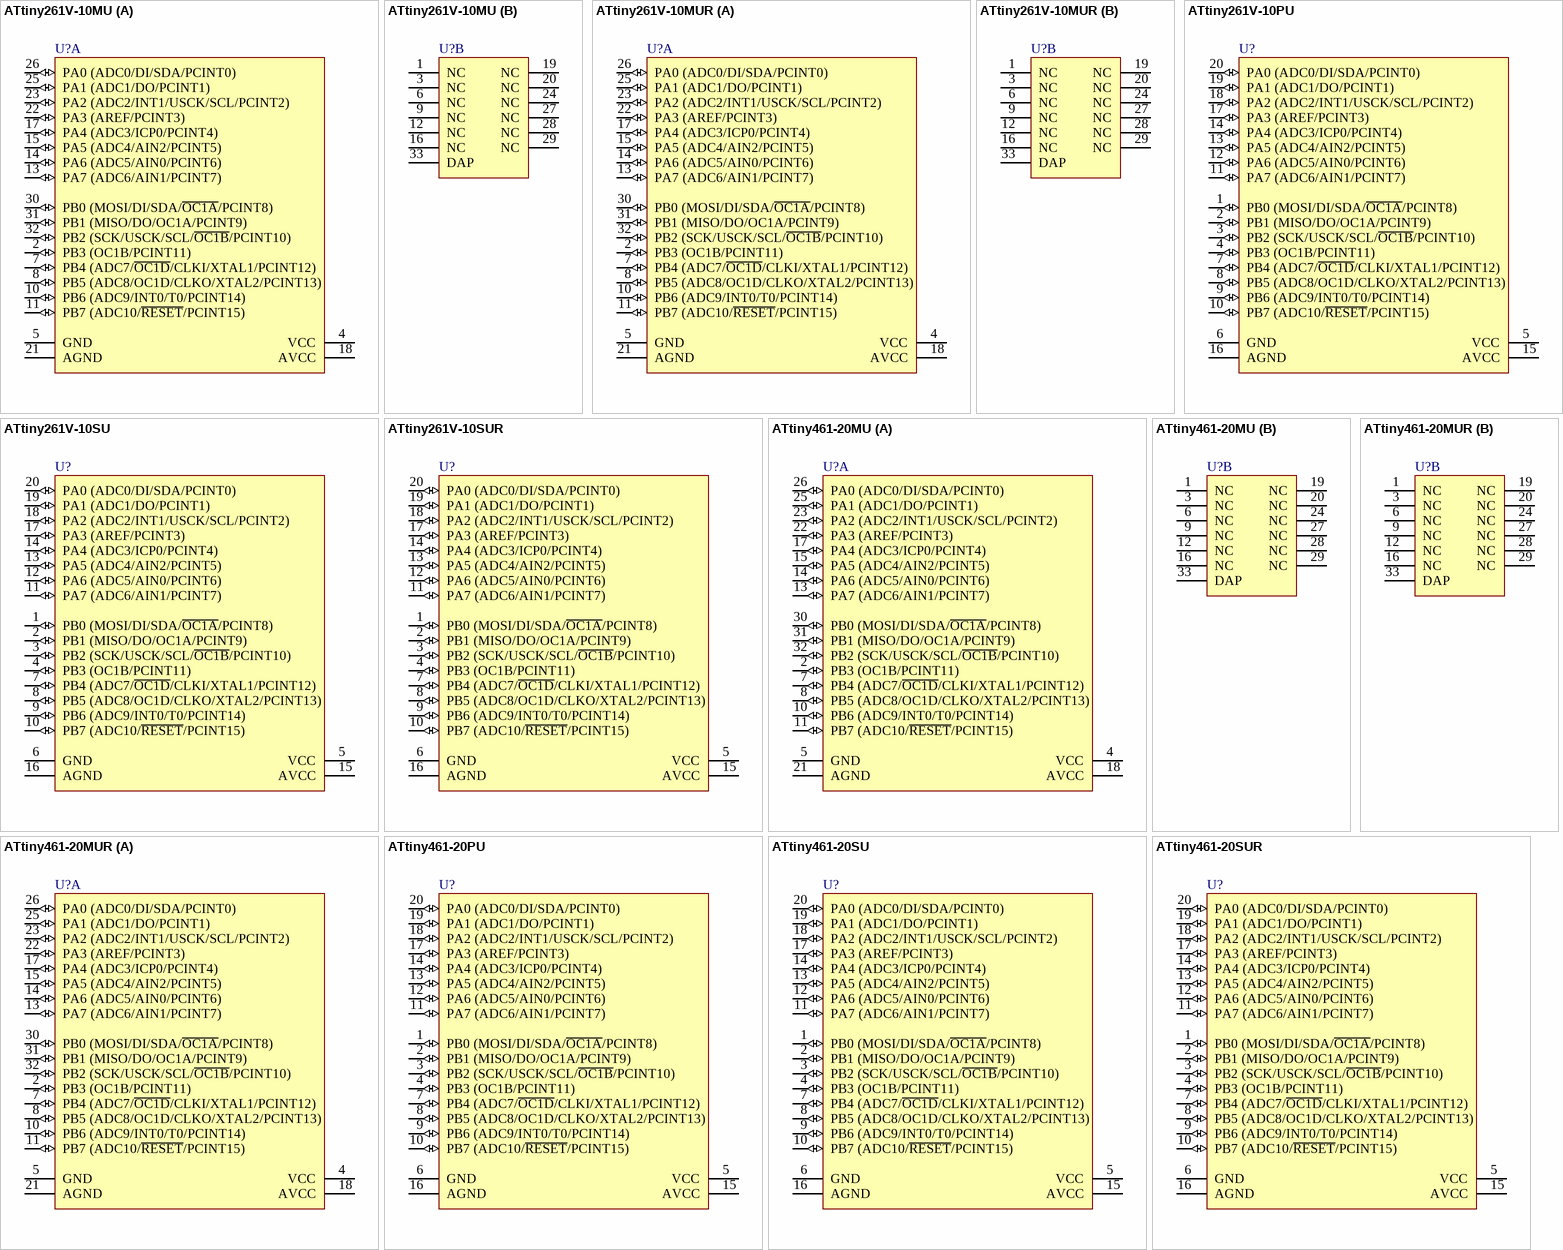
[diagram p21: symbols ATtiny261V-10MU to ATtiny461-20SUR]

## ATtiny261V-10MU
designator U?
8-bit AVR Microcontroller, 1.8-5.5V, 10MHz, 2KB Flash, 128 Bytes EEPROM, 128 Bytes SRAM, 32-pin MLF, Industrial Grade (-40°C to 85°C); DatasheetVersion: revE, Aug-2010; PackageVersion: revE, May-2006; PackageReference: 32M1-A; PackageDescription: 32-Pin Micro Lead Frame Package (MLF),  5 x 5 x 1.0 mm Body, Pitch 0.50 mm, 3.10mm Exposed Pad; Code_JEDEC: MO-220-VHHD-2; ComponentLink1Description: Manufacturer URL; ComponentLink1URL: http://www.atmel.com/; ComponentLink2Description: ATtiny261/461/861 Datasheet; ComponentLink2URL: http://www.atmel.com/dyn/resources/prod_documents/doc2588.pdf; ComponentLink3Description: ATtiny261/461/861 Summary; ComponentLink3URL: http://www.atmel.com/dyn/resources/prod_documents/2588S.pdf
footprint 32M1-A_N (QFN, 32-Leads, Body 5x5mm, Pitch 0.5mm, Thermal Pad 3.3x3.3mm, IPC Medium Density)
footprint 32M1-A_L (QFN, 32-Leads, Body 5x5mm, Pitch 0.5mm, Thermal Pad 3.3x3.3mm, IPC High Density)
footprint 32M1-A_M (QFN, 32-Leads, Body 5x5mm, Pitch 0.5mm, Thermal Pad 3.3x3.3mm, IPC Low Density)
part A pins: 2 PB3 (OC1B/PCINT11) (io), 4 VCC (power), 5 GND (power), 7 PB4 (ADC7/~{OC1D}/CLKI/XTAL1/PCINT12) (io), 8 PB5 (ADC8/OC1D/CLKO/XTAL2/PCINT13) (io), 10 PB6 (ADC9/INT0/T0/PCINT14) (io), 11 PB7 (ADC10/~{RESET}/PCINT15) (io), 13 PA7 (ADC6/AIN1/PCINT7) (io), 14 PA6 (ADC5/AIN0/PCINT6) (io), 15 PA5 (ADC4/AIN2/PCINT5) (io), 17 PA4 (ADC3/ICP0/PCINT4) (io), 18 AVCC (power), 21 AGND (power), 22 PA3 (AREF/PCINT3) (io), 23 PA2 (ADC2/INT1/USCK/SCL/PCINT2) (io), 25 PA1 (ADC1/DO/PCINT1) (io), 26 PA0 (ADC0/DI/SDA/PCINT0) (io), 30 PB0 (MOSI/DI/SDA/~{OC1A}/PCINT8) (io), 31 PB1 (MISO/DO/OC1A/PCINT9) (io), 32 PB2 (SCK/USCK/SCL/~{OC1B}/PCINT10) (io)
part B pins: 1 NC, 3 NC, 6 NC, 9 NC, 12 NC, 16 NC, 19 NC, 20 NC, 24 NC, 27 NC, 28 NC, 29 NC, 33 DAP (power)

## ATtiny261V-10MUR
designator U?
8-bit AVR Microcontroller, 1.8-5.5V, 10MHz, 2KB Flash, 128 Bytes EEPROM, 128 Bytes SRAM, 32-pin MLF, Industrial Grade (-40°C to 85°C), Reel; DatasheetVersion: revE, Aug-2010; PackageVersion: revE, May-2006; PackageReference: 32M1-A; PackageDescription: 32-Pin Micro Lead Frame Package (MLF),  5 x 5 x 1.0 mm Body, Pitch 0.50 mm, 3.10mm Exposed Pad; Code_JEDEC: MO-220-VHHD-2; ComponentLink1Description: Manufacturer URL; ComponentLink1URL: http://www.atmel.com/; ComponentLink2Description: ATtiny261/461/861 Datasheet; ComponentLink2URL: http://www.atmel.com/dyn/resources/prod_documents/doc2588.pdf; ComponentLink3Description: ATtiny261/461/861 Summary; ComponentLink3URL: http://www.atmel.com/dyn/resources/prod_documents/2588S.pdf
footprint 32M1-A_N (QFN, 32-Leads, Body 5x5mm, Pitch 0.5mm, Thermal Pad 3.3x3.3mm, IPC Medium Density)
footprint 32M1-A_L (QFN, 32-Leads, Body 5x5mm, Pitch 0.5mm, Thermal Pad 3.3x3.3mm, IPC High Density)
footprint 32M1-A_M (QFN, 32-Leads, Body 5x5mm, Pitch 0.5mm, Thermal Pad 3.3x3.3mm, IPC Low Density)
part A pins: 2 PB3 (OC1B/PCINT11) (io), 4 VCC (power), 5 GND (power), 7 PB4 (ADC7/~{OC1D}/CLKI/XTAL1/PCINT12) (io), 8 PB5 (ADC8/OC1D/CLKO/XTAL2/PCINT13) (io), 10 PB6 (ADC9/INT0/T0/PCINT14) (io), 11 PB7 (ADC10/~{RESET}/PCINT15) (io), 13 PA7 (ADC6/AIN1/PCINT7) (io), 14 PA6 (ADC5/AIN0/PCINT6) (io), 15 PA5 (ADC4/AIN2/PCINT5) (io), 17 PA4 (ADC3/ICP0/PCINT4) (io), 18 AVCC (power), 21 AGND (power), 22 PA3 (AREF/PCINT3) (io), 23 PA2 (ADC2/INT1/USCK/SCL/PCINT2) (io), 25 PA1 (ADC1/DO/PCINT1) (io), 26 PA0 (ADC0/DI/SDA/PCINT0) (io), 30 PB0 (MOSI/DI/SDA/~{OC1A}/PCINT8) (io), 31 PB1 (MISO/DO/OC1A/PCINT9) (io), 32 PB2 (SCK/USCK/SCL/~{OC1B}/PCINT10) (io)
part B pins: 1 NC, 3 NC, 6 NC, 9 NC, 12 NC, 16 NC, 19 NC, 20 NC, 24 NC, 27 NC, 28 NC, 29 NC, 33 DAP (power)

## ATtiny261V-10PU
designator U?
8-bit AVR Microcontroller, 1.8-5.5V, 10MHz, 2KB Flash, 128 Bytes EEPROM, 128 Bytes SRAM, 20-pin PDIP, Industrial Grade (-40°C to 85°C); DatasheetVersion: revE, Aug-2010; PackageVersion: revD, Oct-2010; PackageReference: 20P3; PackageDescription: 20-lead (0.300"/7.62mm Wide) Plastic Dual Inline Package (PDIP); Code_JEDEC: MS-001-AD; ComponentLink1Description: Manufacturer URL; ComponentLink1URL: http://www.atmel.com/; ComponentLink2Description: ATtiny261/461/861 Datasheet; ComponentLink2URL: http://www.atmel.com/dyn/resources/prod_documents/doc2588.pdf; ComponentLink3Description: ATtiny261/461/861 Summary; ComponentLink3URL: http://www.atmel.com/dyn/resources/prod_documents/2588S.pdf
footprint 20P3 (DIP, 20-Leads, Row Spacing 7.62mm, Pitch 2.54mm, Body 25.9x6.61mm)
pins: 1 PB0 (MOSI/DI/SDA/~{OC1A}/PCINT8) (io), 2 PB1 (MISO/DO/OC1A/PCINT9) (io), 3 PB2 (SCK/USCK/SCL/~{OC1B}/PCINT10) (io), 4 PB3 (OC1B/PCINT11) (io), 5 VCC (power), 6 GND (power), 7 PB4 (ADC7/~{OC1D}/CLKI/XTAL1/PCINT12) (io), 8 PB5 (ADC8/OC1D/CLKO/XTAL2/PCINT13) (io), 9 PB6 (ADC9/INT0/T0/PCINT14) (io), 10 PB7 (ADC10/~{RESET}/PCINT15) (io), 11 PA7 (ADC6/AIN1/PCINT7) (io), 12 PA6 (ADC5/AIN0/PCINT6) (io), 13 PA5 (ADC4/AIN2/PCINT5) (io), 14 PA4 (ADC3/ICP0/PCINT4) (io), 15 AVCC (power), 16 AGND (power), 17 PA3 (AREF/PCINT3) (io), 18 PA2 (ADC2/INT1/USCK/SCL/PCINT2) (io), 19 PA1 (ADC1/DO/PCINT1) (io), 20 PA0 (ADC0/DI/SDA/PCINT0) (io)

## ATtiny261V-10SU
designator U?
8-bit AVR Microcontroller, 1.8-5.5V, 10MHz, 2KB Flash, 128 Bytes EEPROM, 128 Bytes SRAM, 20-pin SOIC, Industrial Grade (-40°C to 85°C); DatasheetVersion: revE, Aug-2010; PackageVersion: revB, Nov-2006; PackageReference: 20S2; PackageDescription: 20-lead, 0.300" Wide Body, Plastic Gull Wing Small Outline Package (SOIC); Code_JEDEC: MS-013-AC; Code_IPC: SOIC127P1030-20; ComponentLink1Description: Manufacturer URL; ComponentLink1URL: http://www.atmel.com/; ComponentLink2Description: ATtiny261/461/861 Datasheet; ComponentLink2URL: http://www.atmel.com/dyn/resources/prod_documents/doc2588.pdf; ComponentLink3Description: ATtiny261/461/861 Summary; ComponentLink3URL: http://www.atmel.com/dyn/resources/prod_documents/2588S.pdf
footprint 20S2_N (SOIC, 20-Leads, Body 12.8x7.5mm, Pitch 1.27mm, IPC Medium Density)
footprint 20S2_L (SOIC, 20-Leads, Body 12.8x7.5mm, Pitch 1.27mm, IPC High Density)
footprint 20S2_M (SOIC, 20-Leads, Body 12.8x7.5mm, Pitch 1.27mm, IPC Low Density)
pins: 1 PB0 (MOSI/DI/SDA/~{OC1A}/PCINT8) (io), 2 PB1 (MISO/DO/OC1A/PCINT9) (io), 3 PB2 (SCK/USCK/SCL/~{OC1B}/PCINT10) (io), 4 PB3 (OC1B/PCINT11) (io), 5 VCC (power), 6 GND (power), 7 PB4 (ADC7/~{OC1D}/CLKI/XTAL1/PCINT12) (io), 8 PB5 (ADC8/OC1D/CLKO/XTAL2/PCINT13) (io), 9 PB6 (ADC9/INT0/T0/PCINT14) (io), 10 PB7 (ADC10/~{RESET}/PCINT15) (io), 11 PA7 (ADC6/AIN1/PCINT7) (io), 12 PA6 (ADC5/AIN0/PCINT6) (io), 13 PA5 (ADC4/AIN2/PCINT5) (io), 14 PA4 (ADC3/ICP0/PCINT4) (io), 15 AVCC (power), 16 AGND (power), 17 PA3 (AREF/PCINT3) (io), 18 PA2 (ADC2/INT1/USCK/SCL/PCINT2) (io), 19 PA1 (ADC1/DO/PCINT1) (io), 20 PA0 (ADC0/DI/SDA/PCINT0) (io)

## ATtiny261V-10SUR
designator U?
8-bit AVR Microcontroller, 1.8-5.5V, 10MHz, 2KB Flash, 128 Bytes EEPROM, 128 Bytes SRAM, 20-pin SOIC, Industrial Grade (-40°C to 85°C), Reel; DatasheetVersion: revE, Aug-2010; PackageVersion: revB, Nov-2006; PackageReference: 20S2; PackageDescription: 20-lead, 0.300" Wide Body, Plastic Gull Wing Small Outline Package (SOIC); Code_JEDEC: MS-013-AC; Code_IPC: SOIC127P1030-20; ComponentLink1Description: Manufacturer URL; ComponentLink1URL: http://www.atmel.com/; ComponentLink2Description: ATtiny261/461/861 Datasheet; ComponentLink2URL: http://www.atmel.com/dyn/resources/prod_documents/doc2588.pdf; ComponentLink3Description: ATtiny261/461/861 Summary; ComponentLink3URL: http://www.atmel.com/dyn/resources/prod_documents/2588S.pdf
footprint 20S2_N (SOIC, 20-Leads, Body 12.8x7.5mm, Pitch 1.27mm, IPC Medium Density)
footprint 20S2_L (SOIC, 20-Leads, Body 12.8x7.5mm, Pitch 1.27mm, IPC High Density)
footprint 20S2_M (SOIC, 20-Leads, Body 12.8x7.5mm, Pitch 1.27mm, IPC Low Density)
pins: 1 PB0 (MOSI/DI/SDA/~{OC1A}/PCINT8) (io), 2 PB1 (MISO/DO/OC1A/PCINT9) (io), 3 PB2 (SCK/USCK/SCL/~{OC1B}/PCINT10) (io), 4 PB3 (OC1B/PCINT11) (io), 5 VCC (power), 6 GND (power), 7 PB4 (ADC7/~{OC1D}/CLKI/XTAL1/PCINT12) (io), 8 PB5 (ADC8/OC1D/CLKO/XTAL2/PCINT13) (io), 9 PB6 (ADC9/INT0/T0/PCINT14) (io), 10 PB7 (ADC10/~{RESET}/PCINT15) (io), 11 PA7 (ADC6/AIN1/PCINT7) (io), 12 PA6 (ADC5/AIN0/PCINT6) (io), 13 PA5 (ADC4/AIN2/PCINT5) (io), 14 PA4 (ADC3/ICP0/PCINT4) (io), 15 AVCC (power), 16 AGND (power), 17 PA3 (AREF/PCINT3) (io), 18 PA2 (ADC2/INT1/USCK/SCL/PCINT2) (io), 19 PA1 (ADC1/DO/PCINT1) (io), 20 PA0 (ADC0/DI/SDA/PCINT0) (io)

## ATtiny461-20MU
designator U?
8-bit AVR Microcontroller, 2.7-5.5V, 20MHz, 4KB Flash, 256 Bytes EEPROM, 256 Bytes SRAM, 32-pin MLF, Industrial Grade (-40°C to 85°C); DatasheetVersion: revE, Aug-2010; PackageVersion: revE, May-2006; PackageReference: 32M1-A; PackageDescription: 32-Pin Micro Lead Frame Package (MLF),  5 x 5 x 1.0 mm Body, Pitch 0.50 mm, 3.10mm Exposed Pad; Code_JEDEC: MO-220-VHHD-2; ComponentLink1Description: Manufacturer URL; ComponentLink1URL: http://www.atmel.com/; ComponentLink2Description: ATtiny261/461/861 Datasheet; ComponentLink2URL: http://www.atmel.com/dyn/resources/prod_documents/doc2588.pdf; ComponentLink3Description: ATtiny261/461/861 Summary; ComponentLink3URL: http://www.atmel.com/dyn/resources/prod_documents/2588S.pdf
footprint 32M1-A_N (QFN, 32-Leads, Body 5x5mm, Pitch 0.5mm, Thermal Pad 3.3x3.3mm, IPC Medium Density)
footprint 32M1-A_L (QFN, 32-Leads, Body 5x5mm, Pitch 0.5mm, Thermal Pad 3.3x3.3mm, IPC High Density)
footprint 32M1-A_M (QFN, 32-Leads, Body 5x5mm, Pitch 0.5mm, Thermal Pad 3.3x3.3mm, IPC Low Density)
part A pins: 2 PB3 (OC1B/PCINT11) (io), 4 VCC (power), 5 GND (power), 7 PB4 (ADC7/~{OC1D}/CLKI/XTAL1/PCINT12) (io), 8 PB5 (ADC8/OC1D/CLKO/XTAL2/PCINT13) (io), 10 PB6 (ADC9/INT0/T0/PCINT14) (io), 11 PB7 (ADC10/~{RESET}/PCINT15) (io), 13 PA7 (ADC6/AIN1/PCINT7) (io), 14 PA6 (ADC5/AIN0/PCINT6) (io), 15 PA5 (ADC4/AIN2/PCINT5) (io), 17 PA4 (ADC3/ICP0/PCINT4) (io), 18 AVCC (power), 21 AGND (power), 22 PA3 (AREF/PCINT3) (io), 23 PA2 (ADC2/INT1/USCK/SCL/PCINT2) (io), 25 PA1 (ADC1/DO/PCINT1) (io), 26 PA0 (ADC0/DI/SDA/PCINT0) (io), 30 PB0 (MOSI/DI/SDA/~{OC1A}/PCINT8) (io), 31 PB1 (MISO/DO/OC1A/PCINT9) (io), 32 PB2 (SCK/USCK/SCL/~{OC1B}/PCINT10) (io)
part B pins: 1 NC, 3 NC, 6 NC, 9 NC, 12 NC, 16 NC, 19 NC, 20 NC, 24 NC, 27 NC, 28 NC, 29 NC, 33 DAP (power)

## ATtiny461-20MUR
designator U?
8-bit AVR Microcontroller, 2.7-5.5V, 20MHz, 4KB Flash, 256 Bytes EEPROM, 256 Bytes SRAM, 32-pin MLF, Industrial Grade (-40°C to 85°C), Reel; DatasheetVersion: revE, Aug-2010; PackageVersion: revE, May-2006; PackageReference: 32M1-A; PackageDescription: 32-Pin Micro Lead Frame Package (MLF),  5 x 5 x 1.0 mm Body, Pitch 0.50 mm, 3.10mm Exposed Pad; Code_JEDEC: MO-220-VHHD-2; ComponentLink1Description: Manufacturer URL; ComponentLink1URL: http://www.atmel.com/; ComponentLink2Description: ATtiny261/461/861 Datasheet; ComponentLink2URL: http://www.atmel.com/dyn/resources/prod_documents/doc2588.pdf; ComponentLink3Description: ATtiny261/461/861 Summary; ComponentLink3URL: http://www.atmel.com/dyn/resources/prod_documents/2588S.pdf
footprint 32M1-A_N (QFN, 32-Leads, Body 5x5mm, Pitch 0.5mm, Thermal Pad 3.3x3.3mm, IPC Medium Density)
footprint 32M1-A_L (QFN, 32-Leads, Body 5x5mm, Pitch 0.5mm, Thermal Pad 3.3x3.3mm, IPC High Density)
footprint 32M1-A_M (QFN, 32-Leads, Body 5x5mm, Pitch 0.5mm, Thermal Pad 3.3x3.3mm, IPC Low Density)
part A pins: 2 PB3 (OC1B/PCINT11) (io), 4 VCC (power), 5 GND (power), 7 PB4 (ADC7/~{OC1D}/CLKI/XTAL1/PCINT12) (io), 8 PB5 (ADC8/OC1D/CLKO/XTAL2/PCINT13) (io), 10 PB6 (ADC9/INT0/T0/PCINT14) (io), 11 PB7 (ADC10/~{RESET}/PCINT15) (io), 13 PA7 (ADC6/AIN1/PCINT7) (io), 14 PA6 (ADC5/AIN0/PCINT6) (io), 15 PA5 (ADC4/AIN2/PCINT5) (io), 17 PA4 (ADC3/ICP0/PCINT4) (io), 18 AVCC (power), 21 AGND (power), 22 PA3 (AREF/PCINT3) (io), 23 PA2 (ADC2/INT1/USCK/SCL/PCINT2) (io), 25 PA1 (ADC1/DO/PCINT1) (io), 26 PA0 (ADC0/DI/SDA/PCINT0) (io), 30 PB0 (MOSI/DI/SDA/~{OC1A}/PCINT8) (io), 31 PB1 (MISO/DO/OC1A/PCINT9) (io), 32 PB2 (SCK/USCK/SCL/~{OC1B}/PCINT10) (io)
part B pins: 1 NC, 3 NC, 6 NC, 9 NC, 12 NC, 16 NC, 19 NC, 20 NC, 24 NC, 27 NC, 28 NC, 29 NC, 33 DAP (power)

## ATtiny461-20PU
designator U?
8-bit AVR Microcontroller, 2.7-5.5V, 20MHz, 4KB Flash, 256 Bytes EEPROM, 256 Bytes SRAM, 20-pin PDIP, Industrial Grade (-40°C to 85°C); DatasheetVersion: revE, Aug-2010; PackageVersion: revD, Oct-2010; PackageReference: 20P3; PackageDescription: 20-lead (0.300"/7.62mm Wide) Plastic Dual Inline Package (PDIP); Code_JEDEC: MS-001-AD; ComponentLink1Description: Manufacturer URL; ComponentLink1URL: http://www.atmel.com/; ComponentLink2Description: ATtiny261/461/861 Datasheet; ComponentLink2URL: http://www.atmel.com/dyn/resources/prod_documents/doc2588.pdf; ComponentLink3Description: ATtiny261/461/861 Summary; ComponentLink3URL: http://www.atmel.com/dyn/resources/prod_documents/2588S.pdf
footprint 20P3 (DIP, 20-Leads, Row Spacing 7.62mm, Pitch 2.54mm, Body 25.9x6.61mm)
pins: 1 PB0 (MOSI/DI/SDA/~{OC1A}/PCINT8) (io), 2 PB1 (MISO/DO/OC1A/PCINT9) (io), 3 PB2 (SCK/USCK/SCL/~{OC1B}/PCINT10) (io), 4 PB3 (OC1B/PCINT11) (io), 5 VCC (power), 6 GND (power), 7 PB4 (ADC7/~{OC1D}/CLKI/XTAL1/PCINT12) (io), 8 PB5 (ADC8/OC1D/CLKO/XTAL2/PCINT13) (io), 9 PB6 (ADC9/INT0/T0/PCINT14) (io), 10 PB7 (ADC10/~{RESET}/PCINT15) (io), 11 PA7 (ADC6/AIN1/PCINT7) (io), 12 PA6 (ADC5/AIN0/PCINT6) (io), 13 PA5 (ADC4/AIN2/PCINT5) (io), 14 PA4 (ADC3/ICP0/PCINT4) (io), 15 AVCC (power), 16 AGND (power), 17 PA3 (AREF/PCINT3) (io), 18 PA2 (ADC2/INT1/USCK/SCL/PCINT2) (io), 19 PA1 (ADC1/DO/PCINT1) (io), 20 PA0 (ADC0/DI/SDA/PCINT0) (io)

## ATtiny461-20SU
designator U?
8-bit AVR Microcontroller, 2.7-5.5V, 20MHz, 4KB Flash, 256 Bytes EEPROM, 256 Bytes SRAM, 20-pin SOIC, Industrial Grade (-40°C to 85°C); DatasheetVersion: revE, Aug-2010; PackageVersion: revB, Nov-2006; PackageReference: 20S2; PackageDescription: 20-lead, 0.300" Wide Body, Plastic Gull Wing Small Outline Package (SOIC); Code_JEDEC: MS-013-AC; Code_IPC: SOIC127P1030-20; ComponentLink1Description: Manufacturer URL; ComponentLink1URL: http://www.atmel.com/; ComponentLink2Description: ATtiny261/461/861 Datasheet; ComponentLink2URL: http://www.atmel.com/dyn/resources/prod_documents/doc2588.pdf; ComponentLink3Description: ATtiny261/461/861 Summary; ComponentLink3URL: http://www.atmel.com/dyn/resources/prod_documents/2588S.pdf
footprint 20S2_N (SOIC, 20-Leads, Body 12.8x7.5mm, Pitch 1.27mm, IPC Medium Density)
footprint 20S2_L (SOIC, 20-Leads, Body 12.8x7.5mm, Pitch 1.27mm, IPC High Density)
footprint 20S2_M (SOIC, 20-Leads, Body 12.8x7.5mm, Pitch 1.27mm, IPC Low Density)
pins: 1 PB0 (MOSI/DI/SDA/~{OC1A}/PCINT8) (io), 2 PB1 (MISO/DO/OC1A/PCINT9) (io), 3 PB2 (SCK/USCK/SCL/~{OC1B}/PCINT10) (io), 4 PB3 (OC1B/PCINT11) (io), 5 VCC (power), 6 GND (power), 7 PB4 (ADC7/~{OC1D}/CLKI/XTAL1/PCINT12) (io), 8 PB5 (ADC8/OC1D/CLKO/XTAL2/PCINT13) (io), 9 PB6 (ADC9/INT0/T0/PCINT14) (io), 10 PB7 (ADC10/~{RESET}/PCINT15) (io), 11 PA7 (ADC6/AIN1/PCINT7) (io), 12 PA6 (ADC5/AIN0/PCINT6) (io), 13 PA5 (ADC4/AIN2/PCINT5) (io), 14 PA4 (ADC3/ICP0/PCINT4) (io), 15 AVCC (power), 16 AGND (power), 17 PA3 (AREF/PCINT3) (io), 18 PA2 (ADC2/INT1/USCK/SCL/PCINT2) (io), 19 PA1 (ADC1/DO/PCINT1) (io), 20 PA0 (ADC0/DI/SDA/PCINT0) (io)

## ATtiny461-20SUR
designator U?
8-bit AVR Microcontroller, 2.7-5.5V, 20MHz, 4KB Flash, 256 Bytes EEPROM, 256 Bytes SRAM, 20-pin SOIC, Industrial Grade (-40°C to 85°C), Reel; DatasheetVersion: revE, Aug-2010; PackageVersion: revB, Nov-2006; PackageReference: 20S2; PackageDescription: 20-lead, 0.300" Wide Body, Plastic Gull Wing Small Outline Package (SOIC); Code_JEDEC: MS-013-AC; Code_IPC: SOIC127P1030-20; ComponentLink1Description: Manufacturer URL; ComponentLink1URL: http://www.atmel.com/; ComponentLink2Description: ATtiny261/461/861 Datasheet; ComponentLink2URL: http://www.atmel.com/dyn/resources/prod_documents/doc2588.pdf; ComponentLink3Description: ATtiny261/461/861 Summary; ComponentLink3URL: http://www.atmel.com/dyn/resources/prod_documents/2588S.pdf
footprint 20S2_N (SOIC, 20-Leads, Body 12.8x7.5mm, Pitch 1.27mm, IPC Medium Density)
footprint 20S2_L (SOIC, 20-Leads, Body 12.8x7.5mm, Pitch 1.27mm, IPC High Density)
footprint 20S2_M (SOIC, 20-Leads, Body 12.8x7.5mm, Pitch 1.27mm, IPC Low Density)
pins: 1 PB0 (MOSI/DI/SDA/~{OC1A}/PCINT8) (io), 2 PB1 (MISO/DO/OC1A/PCINT9) (io), 3 PB2 (SCK/USCK/SCL/~{OC1B}/PCINT10) (io), 4 PB3 (OC1B/PCINT11) (io), 5 VCC (power), 6 GND (power), 7 PB4 (ADC7/~{OC1D}/CLKI/XTAL1/PCINT12) (io), 8 PB5 (ADC8/OC1D/CLKO/XTAL2/PCINT13) (io), 9 PB6 (ADC9/INT0/T0/PCINT14) (io), 10 PB7 (ADC10/~{RESET}/PCINT15) (io), 11 PA7 (ADC6/AIN1/PCINT7) (io), 12 PA6 (ADC5/AIN0/PCINT6) (io), 13 PA5 (ADC4/AIN2/PCINT5) (io), 14 PA4 (ADC3/ICP0/PCINT4) (io), 15 AVCC (power), 16 AGND (power), 17 PA3 (AREF/PCINT3) (io), 18 PA2 (ADC2/INT1/USCK/SCL/PCINT2) (io), 19 PA1 (ADC1/DO/PCINT1) (io), 20 PA0 (ADC0/DI/SDA/PCINT0) (io)

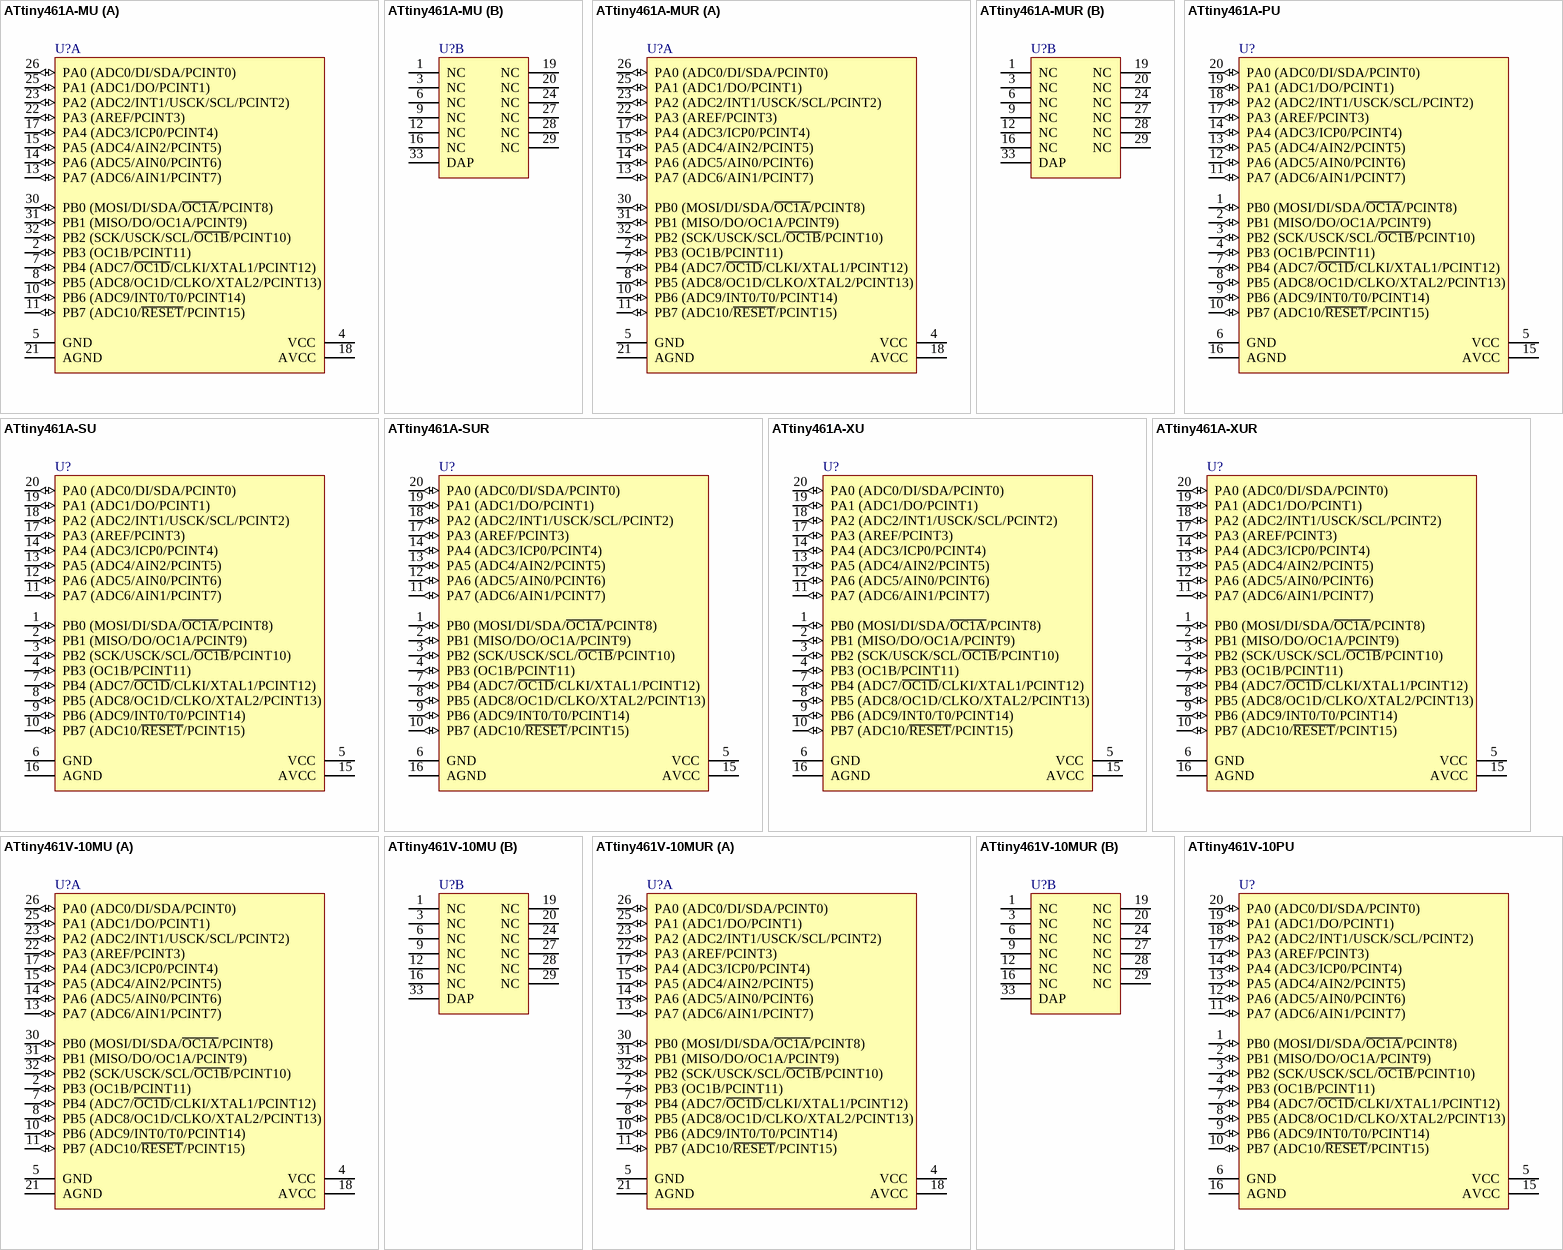
[diagram p22: symbols ATtiny461A-MU to ATtiny461V-10PU]

## ATtiny461A-MU
designator U?
8-bit AVR Microcontroller, 1.8-5.5V, 20MHz, 4KB Flash, 256 Bytes EEPROM, 256 Bytes SRAM, 32-pin MLF, Industrial Grade (-40°C to 85°C), Pb-Free; DatasheetVersion: revC, May-2011; PackageVersion: revE, May-2006; PackageReference: 32M1-A; PackageDescription: 32-Pin Micro Lead Frame Package (MLF),  5 x 5 x 1.0 mm Body, Pitch 0.50 mm, 3.10mm Exposed Pad; Code_JEDEC: MO-220-VHHD-2; ComponentLink1Description: Manufacturer URL; ComponentLink1URL: http://www.atmel.com/; ComponentLink2Description: ATtiny261A/461A/861A Datasheet; ComponentLink2URL: http://www.atmel.com/dyn/resources/prod_documents/doc8197.pdf; ComponentLink3Description: ATtiny261A/461A/861A Summary; ComponentLink3URL: http://www.atmel.com/dyn/resources/prod_documents/8197S.pdf
footprint 32M1-A_N (QFN, 32-Leads, Body 5x5mm, Pitch 0.5mm, Thermal Pad 3.3x3.3mm, IPC Medium Density)
footprint 32M1-A_L (QFN, 32-Leads, Body 5x5mm, Pitch 0.5mm, Thermal Pad 3.3x3.3mm, IPC High Density)
footprint 32M1-A_M (QFN, 32-Leads, Body 5x5mm, Pitch 0.5mm, Thermal Pad 3.3x3.3mm, IPC Low Density)
part A pins: 2 PB3 (OC1B/PCINT11) (io), 4 VCC (power), 5 GND (power), 7 PB4 (ADC7/~{OC1D}/CLKI/XTAL1/PCINT12) (io), 8 PB5 (ADC8/OC1D/CLKO/XTAL2/PCINT13) (io), 10 PB6 (ADC9/INT0/T0/PCINT14) (io), 11 PB7 (ADC10/~{RESET}/PCINT15) (io), 13 PA7 (ADC6/AIN1/PCINT7) (io), 14 PA6 (ADC5/AIN0/PCINT6) (io), 15 PA5 (ADC4/AIN2/PCINT5) (io), 17 PA4 (ADC3/ICP0/PCINT4) (io), 18 AVCC (power), 21 AGND (power), 22 PA3 (AREF/PCINT3) (io), 23 PA2 (ADC2/INT1/USCK/SCL/PCINT2) (io), 25 PA1 (ADC1/DO/PCINT1) (io), 26 PA0 (ADC0/DI/SDA/PCINT0) (io), 30 PB0 (MOSI/DI/SDA/~{OC1A}/PCINT8) (io), 31 PB1 (MISO/DO/OC1A/PCINT9) (io), 32 PB2 (SCK/USCK/SCL/~{OC1B}/PCINT10) (io)
part B pins: 1 NC, 3 NC, 6 NC, 9 NC, 12 NC, 16 NC, 19 NC, 20 NC, 24 NC, 27 NC, 28 NC, 29 NC, 33 DAP (power)

## ATtiny461A-MUR
designator U?
8-bit AVR Microcontroller, 1.8-5.5V, 20MHz, 4KB Flash, 256 Bytes EEPROM, 256 Bytes SRAM, 32-pin MLF, Industrial Grade (-40°C to 85°C), Pb-Free, Reel; DatasheetVersion: revC, May-2011; PackageVersion: revE, May-2006; PackageReference: 32M1-A; PackageDescription: 32-Pin Micro Lead Frame Package (MLF),  5 x 5 x 1.0 mm Body, Pitch 0.50 mm, 3.10mm Exposed Pad; Code_JEDEC: MO-220-VHHD-2; ComponentLink1Description: Manufacturer URL; ComponentLink1URL: http://www.atmel.com/; ComponentLink2Description: ATtiny261A/461A/861A Datasheet; ComponentLink2URL: http://www.atmel.com/dyn/resources/prod_documents/doc8197.pdf; ComponentLink3Description: ATtiny261A/461A/861A Summary; ComponentLink3URL: http://www.atmel.com/dyn/resources/prod_documents/8197S.pdf
footprint 32M1-A_N (QFN, 32-Leads, Body 5x5mm, Pitch 0.5mm, Thermal Pad 3.3x3.3mm, IPC Medium Density)
footprint 32M1-A_L (QFN, 32-Leads, Body 5x5mm, Pitch 0.5mm, Thermal Pad 3.3x3.3mm, IPC High Density)
footprint 32M1-A_M (QFN, 32-Leads, Body 5x5mm, Pitch 0.5mm, Thermal Pad 3.3x3.3mm, IPC Low Density)
part A pins: 2 PB3 (OC1B/PCINT11) (io), 4 VCC (power), 5 GND (power), 7 PB4 (ADC7/~{OC1D}/CLKI/XTAL1/PCINT12) (io), 8 PB5 (ADC8/OC1D/CLKO/XTAL2/PCINT13) (io), 10 PB6 (ADC9/INT0/T0/PCINT14) (io), 11 PB7 (ADC10/~{RESET}/PCINT15) (io), 13 PA7 (ADC6/AIN1/PCINT7) (io), 14 PA6 (ADC5/AIN0/PCINT6) (io), 15 PA5 (ADC4/AIN2/PCINT5) (io), 17 PA4 (ADC3/ICP0/PCINT4) (io), 18 AVCC (power), 21 AGND (power), 22 PA3 (AREF/PCINT3) (io), 23 PA2 (ADC2/INT1/USCK/SCL/PCINT2) (io), 25 PA1 (ADC1/DO/PCINT1) (io), 26 PA0 (ADC0/DI/SDA/PCINT0) (io), 30 PB0 (MOSI/DI/SDA/~{OC1A}/PCINT8) (io), 31 PB1 (MISO/DO/OC1A/PCINT9) (io), 32 PB2 (SCK/USCK/SCL/~{OC1B}/PCINT10) (io)
part B pins: 1 NC, 3 NC, 6 NC, 9 NC, 12 NC, 16 NC, 19 NC, 20 NC, 24 NC, 27 NC, 28 NC, 29 NC, 33 DAP (power)

## ATtiny461A-PU
designator U?
8-bit AVR Microcontroller, 1.8-5.5V, 20MHz, 4KB Flash, 256 Bytes EEPROM, 256 Bytes SRAM, 20-pin PDIP, Industrial Grade (-40°C to 85°C), Pb-Free; DatasheetVersion: revC, May-2011; PackageVersion: revD, Oct-2010; PackageReference: 20P3; PackageDescription: 20-lead (0.300"/7.62mm Wide) Plastic Dual Inline Package (PDIP); Code_JEDEC: MS-001-AD; ComponentLink1Description: Manufacturer URL; ComponentLink1URL: http://www.atmel.com/; ComponentLink2Description: ATtiny261A/461A/861A Datasheet; ComponentLink2URL: http://www.atmel.com/dyn/resources/prod_documents/doc8197.pdf; ComponentLink3Description: ATtiny261A/461A/861A Summary; ComponentLink3URL: http://www.atmel.com/dyn/resources/prod_documents/8197S.pdf
footprint 20P3 (DIP, 20-Leads, Row Spacing 7.62mm, Pitch 2.54mm, Body 25.9x6.61mm)
pins: 1 PB0 (MOSI/DI/SDA/~{OC1A}/PCINT8) (io), 2 PB1 (MISO/DO/OC1A/PCINT9) (io), 3 PB2 (SCK/USCK/SCL/~{OC1B}/PCINT10) (io), 4 PB3 (OC1B/PCINT11) (io), 5 VCC (power), 6 GND (power), 7 PB4 (ADC7/~{OC1D}/CLKI/XTAL1/PCINT12) (io), 8 PB5 (ADC8/OC1D/CLKO/XTAL2/PCINT13) (io), 9 PB6 (ADC9/INT0/T0/PCINT14) (io), 10 PB7 (ADC10/~{RESET}/PCINT15) (io), 11 PA7 (ADC6/AIN1/PCINT7) (io), 12 PA6 (ADC5/AIN0/PCINT6) (io), 13 PA5 (ADC4/AIN2/PCINT5) (io), 14 PA4 (ADC3/ICP0/PCINT4) (io), 15 AVCC (power), 16 AGND (power), 17 PA3 (AREF/PCINT3) (io), 18 PA2 (ADC2/INT1/USCK/SCL/PCINT2) (io), 19 PA1 (ADC1/DO/PCINT1) (io), 20 PA0 (ADC0/DI/SDA/PCINT0) (io)

## ATtiny461A-SU
designator U?
8-bit AVR Microcontroller, 1.8-5.5V, 20MHz, 4KB Flash, 256 Bytes EEPROM, 256 Bytes SRAM, 20-pin SOIC, Industrial Grade (-40°C to 85°C), Pb-Free; DatasheetVersion: revC, May-2011; PackageVersion: revB, Nov-2006; PackageReference: 20S2; PackageDescription: 20-lead, 0.300" Wide Body, Plastic Gull Wing Small Outline Package (SOIC); Code_JEDEC: MS-013-AC; Code_IPC: SOIC127P1030-20; ComponentLink1Description: Manufacturer URL; ComponentLink1URL: http://www.atmel.com/; ComponentLink2Description: ATtiny261A/461A/861A Datasheet; ComponentLink2URL: http://www.atmel.com/dyn/resources/prod_documents/doc8197.pdf; ComponentLink3Description: ATtiny261A/461A/861A Summary; ComponentLink3URL: http://www.atmel.com/dyn/resources/prod_documents/8197S.pdf
footprint 20S2_N (SOIC, 20-Leads, Body 12.8x7.5mm, Pitch 1.27mm, IPC Medium Density)
footprint 20S2_L (SOIC, 20-Leads, Body 12.8x7.5mm, Pitch 1.27mm, IPC High Density)
footprint 20S2_M (SOIC, 20-Leads, Body 12.8x7.5mm, Pitch 1.27mm, IPC Low Density)
pins: 1 PB0 (MOSI/DI/SDA/~{OC1A}/PCINT8) (io), 2 PB1 (MISO/DO/OC1A/PCINT9) (io), 3 PB2 (SCK/USCK/SCL/~{OC1B}/PCINT10) (io), 4 PB3 (OC1B/PCINT11) (io), 5 VCC (power), 6 GND (power), 7 PB4 (ADC7/~{OC1D}/CLKI/XTAL1/PCINT12) (io), 8 PB5 (ADC8/OC1D/CLKO/XTAL2/PCINT13) (io), 9 PB6 (ADC9/INT0/T0/PCINT14) (io), 10 PB7 (ADC10/~{RESET}/PCINT15) (io), 11 PA7 (ADC6/AIN1/PCINT7) (io), 12 PA6 (ADC5/AIN0/PCINT6) (io), 13 PA5 (ADC4/AIN2/PCINT5) (io), 14 PA4 (ADC3/ICP0/PCINT4) (io), 15 AVCC (power), 16 AGND (power), 17 PA3 (AREF/PCINT3) (io), 18 PA2 (ADC2/INT1/USCK/SCL/PCINT2) (io), 19 PA1 (ADC1/DO/PCINT1) (io), 20 PA0 (ADC0/DI/SDA/PCINT0) (io)